# Altium integrated library Xilinx Virtex.IntLib: 240 symbols (part 17 of 35)
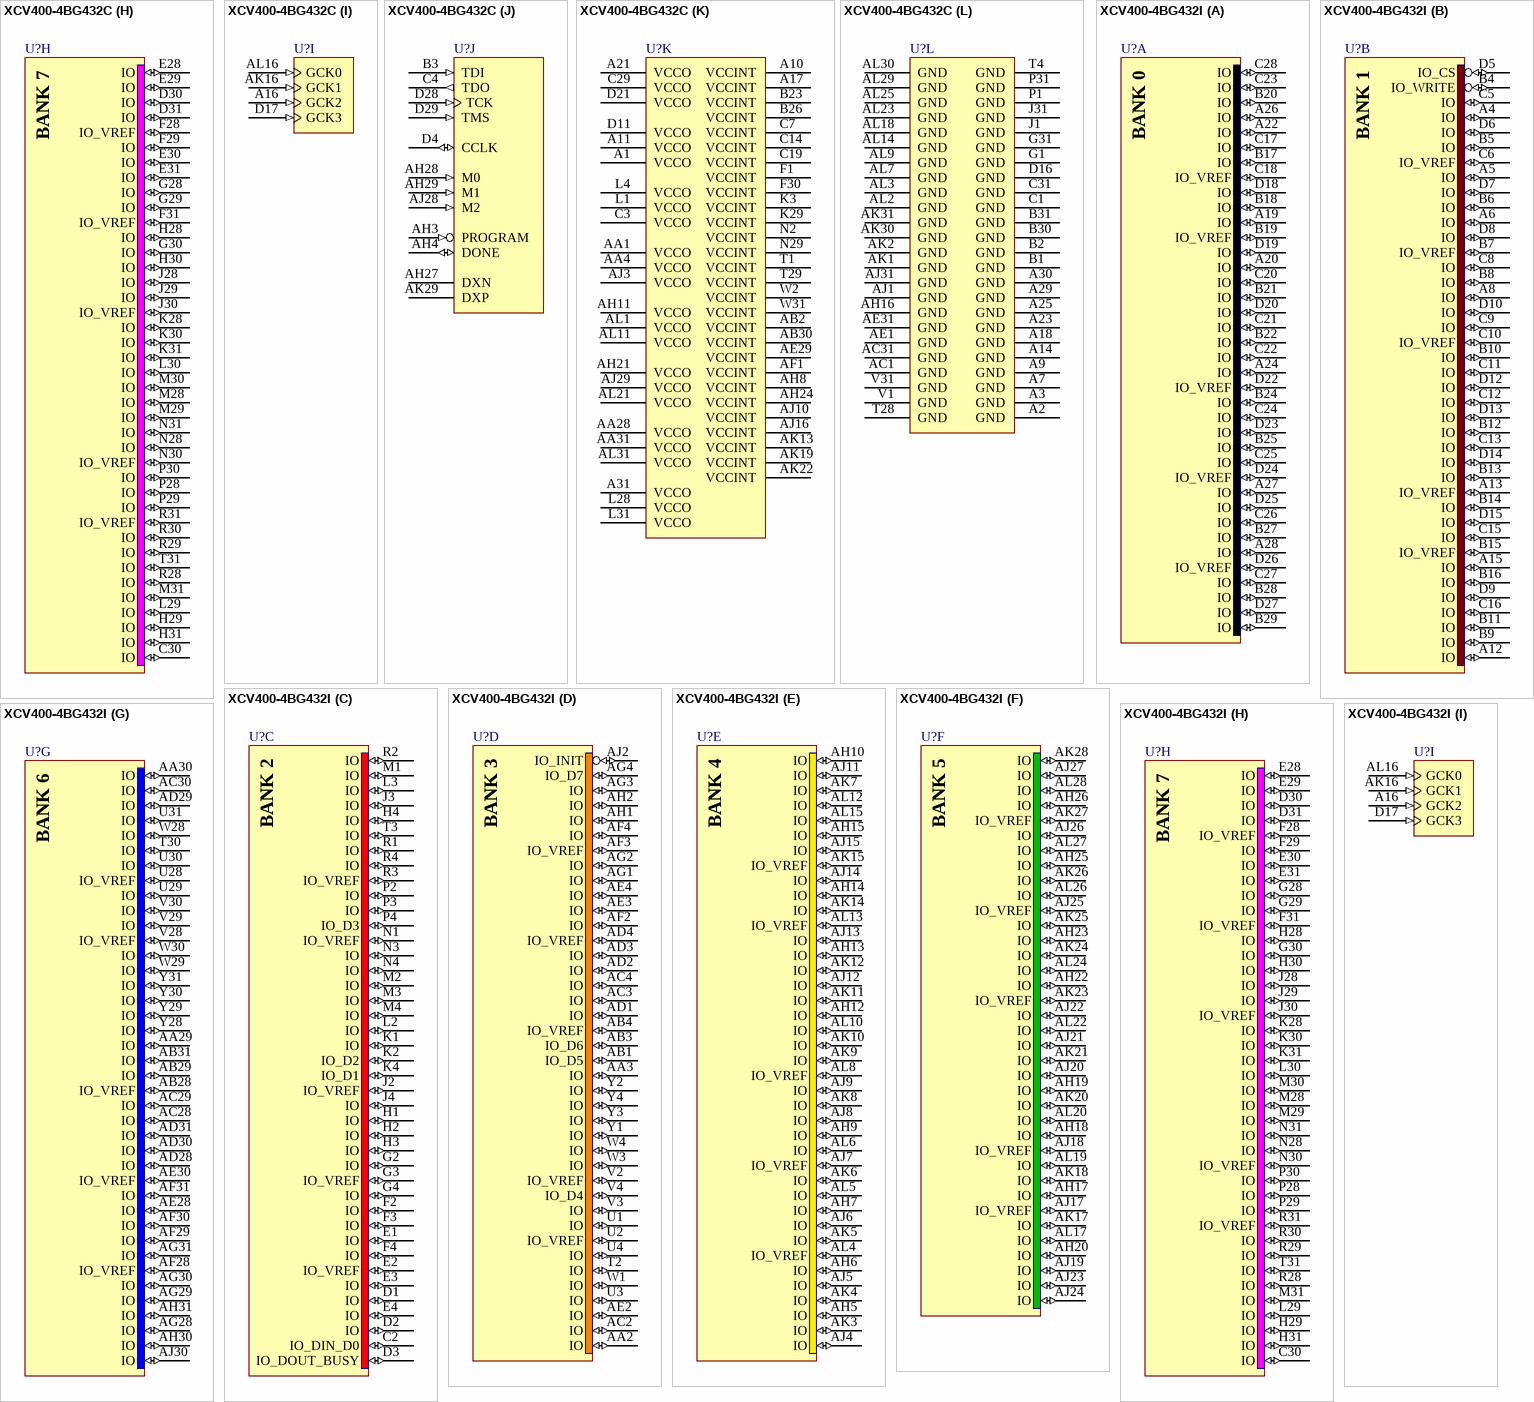
[diagram p237: symbols XCV400-4BG432C to XCV400-4BG432I]

## XCV400-4BG432C
designator U?
Virtex 2.5V FPGA, 316 User I/Os, 432-Ball BGA, Speed Grade 4, Commercial Grade; Note: Solder pads are defined by the copper i.e. non-soldermask defined (NSMD); DatasheetVersion: Dec-2002; PackageVersion: ver1.1, Apr-2001; PackageReference: BG432; PackageDescription: 432-Ball Metal Ball Grid Array (BG432); Code_JEDEC: MO-192-BAU-1 (Depopulated); ComponentLink1Description: Manufacturer URL; ComponentLink1URL: http://www.xilinx.com/; ComponentLink2Description: Virtex Datasheet; ComponentLink2URL: http://www.xilinx.com/support/documentation/data_sheets/ds003.pdf; ComponentLink3Description: BG432 Package Drawing; ComponentLink3URL: http://www.xilinx.com/support/documentation/package_specs/bg432.pdf; ComponentLink4Description: Virtex Documents; ComponentLink4URL: http://www.xilinx.com/support/documentation/virtex.htm
footprint BG432 (BGA, 432-Leads, Body 40x40mm, Pitch 1.27mm)
part A pins: A19 IO (io), A20 IO (io), A22 IO (io), A24 IO (io), A26 IO (io), A27 IO (io), A28 IO (io), B17 IO (io), B18 IO (io), B19 IO_VREF (io), B20 IO (io), B21 IO (io), B22 IO (io), B24 IO (io), B25 IO (io), B27 IO (io), B28 IO (io), B29 IO (io), C17 IO (io), C18 IO_VREF (io), C20 IO (io), C21 IO (io), C22 IO (io), C23 IO (io), C24 IO (io), C25 IO (io), C26 IO (io), C27 IO (io), C28 IO (io), D18 IO (io), D19 IO (io), D20 IO (io), D22 IO_VREF (io), D23 IO (io), D24 IO_VREF (io), D25 IO (io), D26 IO_VREF (io), D27 IO (io)
part B pins: A4 IO (io), A5 IO (io), A6 IO (io), A8 IO (io), A12 IO (io), A13 IO_VREF (io), A15 IO (io), B4 IO_WRITE (io), B5 IO (io), B6 IO (io), B7 IO_VREF (io), B8 IO (io), B9 IO (io), B10 IO (io), B11 IO (io), B12 IO (io), B13 IO (io), B14 IO (io), B15 IO_VREF (io), B16 IO (io), C5 IO (io), C6 IO_VREF (io), C8 IO (io), C9 IO (io), C10 IO_VREF (io), C11 IO (io), C12 IO (io), C13 IO (io), C15 IO (io), C16 IO (io), D5 IO_CS (io), D6 IO (io), D7 IO (io), D8 IO (io), D9 IO (io), D10 IO (io), D12 IO (io), D13 IO (io), D14 IO (io), D15 IO (io)
part C pins: C2 IO_DIN_D0 (io), D1 IO (io), D2 IO (io), D3 IO_DOUT_BUSY (io), E1 IO (io), E2 IO_VREF (io), E3 IO (io), E4 IO (io), F2 IO (io), F3 IO (io), F4 IO (io), G2 IO (io), G3 IO_VREF (io), G4 IO (io), H1 IO (io), H2 IO (io), H3 IO (io), H4 IO (io), J2 IO_VREF (io), J3 IO (io), J4 IO (io), K1 IO (io), K2 IO_D2 (io), K4 IO_D1 (io), L2 IO (io), L3 IO (io), M1 IO (io), M2 IO (io), M3 IO (io), M4 IO (io), N1 IO_VREF (io), N3 IO (io), N4 IO (io), P2 IO (io), P3 IO (io), P4 IO_D3 (io), R1 IO (io), R2 IO (io), R3 IO_VREF (io), R4 IO (io), T3 IO (io)
part D pins: AA2 IO (io), AA3 IO (io), AB1 IO_D5 (io), AB3 IO_D6 (io), AB4 IO_VREF (io), AC2 IO (io), AC3 IO (io), AC4 IO (io), AD1 IO (io), AD2 IO (io), AD3 IO (io), AD4 IO_VREF (io), AE2 IO (io), AE3 IO (io), AE4 IO (io), AF2 IO (io), AF3 IO_VREF (io), AF4 IO (io), AG1 IO (io), AG2 IO (io), AG3 IO (io), AG4 IO_D7 (io), AH1 IO (io), AH2 IO (io), AJ2 IO_INIT (io), T2 IO (io), U1 IO (io), U2 IO_VREF (io), U3 IO (io), U4 IO (io), V2 IO_VREF (io), V3 IO (io), V4 IO_D4 (io), W1 IO (io), W3 IO (io), W4 IO (io), Y1 IO (io), Y2 IO (io), Y3 IO (io), Y4 IO (io)
part E pins: AH5 IO (io), AH6 IO (io), AH7 IO (io), AH9 IO (io), AH10 IO (io), AH12 IO (io), AH13 IO (io), AH14 IO (io), AH15 IO (io), AJ4 IO (io), AJ5 IO (io), AJ6 IO (io), AJ7 IO_VREF (io), AJ8 IO (io), AJ9 IO (io), AJ11 IO (io), AJ12 IO (io), AJ13 IO (io), AJ14 IO (io), AJ15 IO (io), AK3 IO (io), AK4 IO (io), AK5 IO (io), AK6 IO (io), AK7 IO (io), AK8 IO (io), AK9 IO (io), AK10 IO (io), AK11 IO (io), AK12 IO (io), AK14 IO (io), AK15 IO_VREF (io), AL4 IO_VREF (io), AL5 IO (io), AL6 IO (io), AL8 IO_VREF (io), AL10 IO (io), AL12 IO (io), AL13 IO_VREF (io), AL15 IO (io)
part F pins: AH17 IO (io), AH18 IO (io), AH19 IO (io), AH20 IO (io), AH22 IO (io), AH23 IO (io), AH25 IO (io), AH26 IO (io), AJ17 IO_VREF (io), AJ18 IO_VREF (io), AJ19 IO (io), AJ20 IO (io), AJ21 IO (io), AJ22 IO (io), AJ23 IO (io), AJ24 IO (io), AJ25 IO_VREF (io), AJ26 IO (io), AJ27 IO (io), AK17 IO (io), AK18 IO (io), AK20 IO (io), AK21 IO (io), AK23 IO_VREF (io), AK24 IO (io), AK25 IO (io), AK26 IO (io), AK27 IO_VREF (io), AK28 IO (io), AL17 IO (io), AL19 IO (io), AL20 IO (io), AL22 IO (io), AL24 IO (io), AL26 IO (io), AL27 IO (io), AL28 IO (io)
part G pins: AA29 IO (io), AA30 IO (io), AB28 IO_VREF (io), AB29 IO (io), AB31 IO (io), AC28 IO (io), AC29 IO (io), AC30 IO (io), AD28 IO (io), AD29 IO (io), AD30 IO (io), AD31 IO (io), AE28 IO (io), AE30 IO_VREF (io), AF28 IO_VREF (io), AF29 IO (io), AF30 IO (io), AF31 IO (io), AG28 IO (io), AG29 IO (io), AG30 IO (io), AG31 IO (io), AH30 IO (io), AH31 IO (io), AJ30 IO (io), T30 IO (io), U28 IO_VREF (io), U29 IO (io), U30 IO (io), U31 IO (io), V28 IO_VREF (io), V29 IO (io), V30 IO (io), W28 IO (io), W29 IO (io), W30 IO (io), Y28 IO (io), Y29 IO (io), Y30 IO (io), Y31 IO (io)
part H pins: C30 IO (io), D30 IO (io), D31 IO (io), E28 IO (io), E29 IO (io), E30 IO (io), E31 IO (io), F28 IO_VREF (io), F29 IO (io), F31 IO_VREF (io), G28 IO (io), G29 IO (io), G30 IO (io), H28 IO (io), H29 IO (io), H30 IO (io), H31 IO (io), J28 IO (io), J29 IO (io), J30 IO_VREF (io), K28 IO (io), K30 IO (io), K31 IO (io), L29 IO (io), L30 IO (io), M28 IO (io), M29 IO (io), M30 IO (io), M31 IO (io), N28 IO (io), N30 IO_VREF (io), N31 IO (io), P28 IO (io), P29 IO (io), P30 IO (io), R28 IO (io), R29 IO (io), R30 IO (io), R31 IO_VREF (io), T31 IO (io)
part I pins: A16 GCK2 (in), AK16 GCK1 (in), AL16 GCK0 (in), D17 GCK3 (in)
part J pins: AH3 PROGRAM (in), AH4 DONE (io), AH27 DXN, AH28 M0 (in), AH29 M1 (in), AJ28 M2 (in), AK29 DXP, B3 TDI (in), C4 TDO (out), D4 CCLK (io), D28 TCK (in), D29 TMS (in)
part K pins: A1 VCCO (power), A10 VCCINT (power), A11 VCCO (power), A17 VCCINT (power), A21 VCCO (power), A31 VCCO (power), AA1 VCCO (power), AA4 VCCO (power), AA28 VCCO (power), AA31 VCCO (power), AB2 VCCINT (power), AB30 VCCINT (power), AE29 VCCINT (power), AF1 VCCINT (power), AH8 VCCINT (power), AH11 VCCO (power), AH21 VCCO (power), AH24 VCCINT (power), AJ3 VCCO (power), AJ10 VCCINT (power), AJ16 VCCINT (power), AJ29 VCCO (power), AK13 VCCINT (power), AK19 VCCINT (power), AK22 VCCINT (power), AL1 VCCO (power), AL11 VCCO (power), AL21 VCCO (power), AL31 VCCO (power), B23 VCCINT (power), B26 VCCINT (power), C3 VCCO (power), C7 VCCINT (power), C14 VCCINT (power), C19 VCCINT (power), C29 VCCO (power), D11 VCCO (power), D21 VCCO (power), F1 VCCINT (power), F30 VCCINT (power), K3 VCCINT (power), K29 VCCINT (power), L1 VCCO (power), L4 VCCO (power), L28 VCCO (power), L31 VCCO (power), N2 VCCINT (power), N29 VCCINT (power), T1 VCCINT (power), T29 VCCINT (power), W2 VCCINT (power), W31 VCCINT (power)
part L pins: A2 GND (power), A3 GND (power), A7 GND (power), A9 GND (power), A14 GND (power), A18 GND (power), A23 GND (power), A25 GND (power), A29 GND (power), A30 GND (power), AC1 GND (power), AC31 GND (power), AE1 GND (power), AE31 GND (power), AH16 GND (power), AJ1 GND (power), AJ31 GND (power), AK1 GND (power), AK2 GND (power), AK30 GND (power), AK31 GND (power), AL2 GND (power), AL3 GND (power), AL7 GND (power), AL9 GND (power), AL14 GND (power), AL18 GND (power), AL23 GND (power), AL25 GND (power), AL29 GND (power), AL30 GND (power), B1 GND (power), B2 GND (power), B30 GND (power), B31 GND (power), C1 GND (power), C31 GND (power), D16 GND (power), G1 GND (power), G31 GND (power), J1 GND (power), J31 GND (power), P1 GND (power), P31 GND (power), T4 GND (power), T28 GND (power), V1 GND (power), V31 GND (power)
part A text: BANK 0
part B text: BANK 1
part C text: BANK 2
part D text: BANK 3
part E text: BANK 4
part F text: BANK 5
part G text: BANK 6
part H text: BANK 7

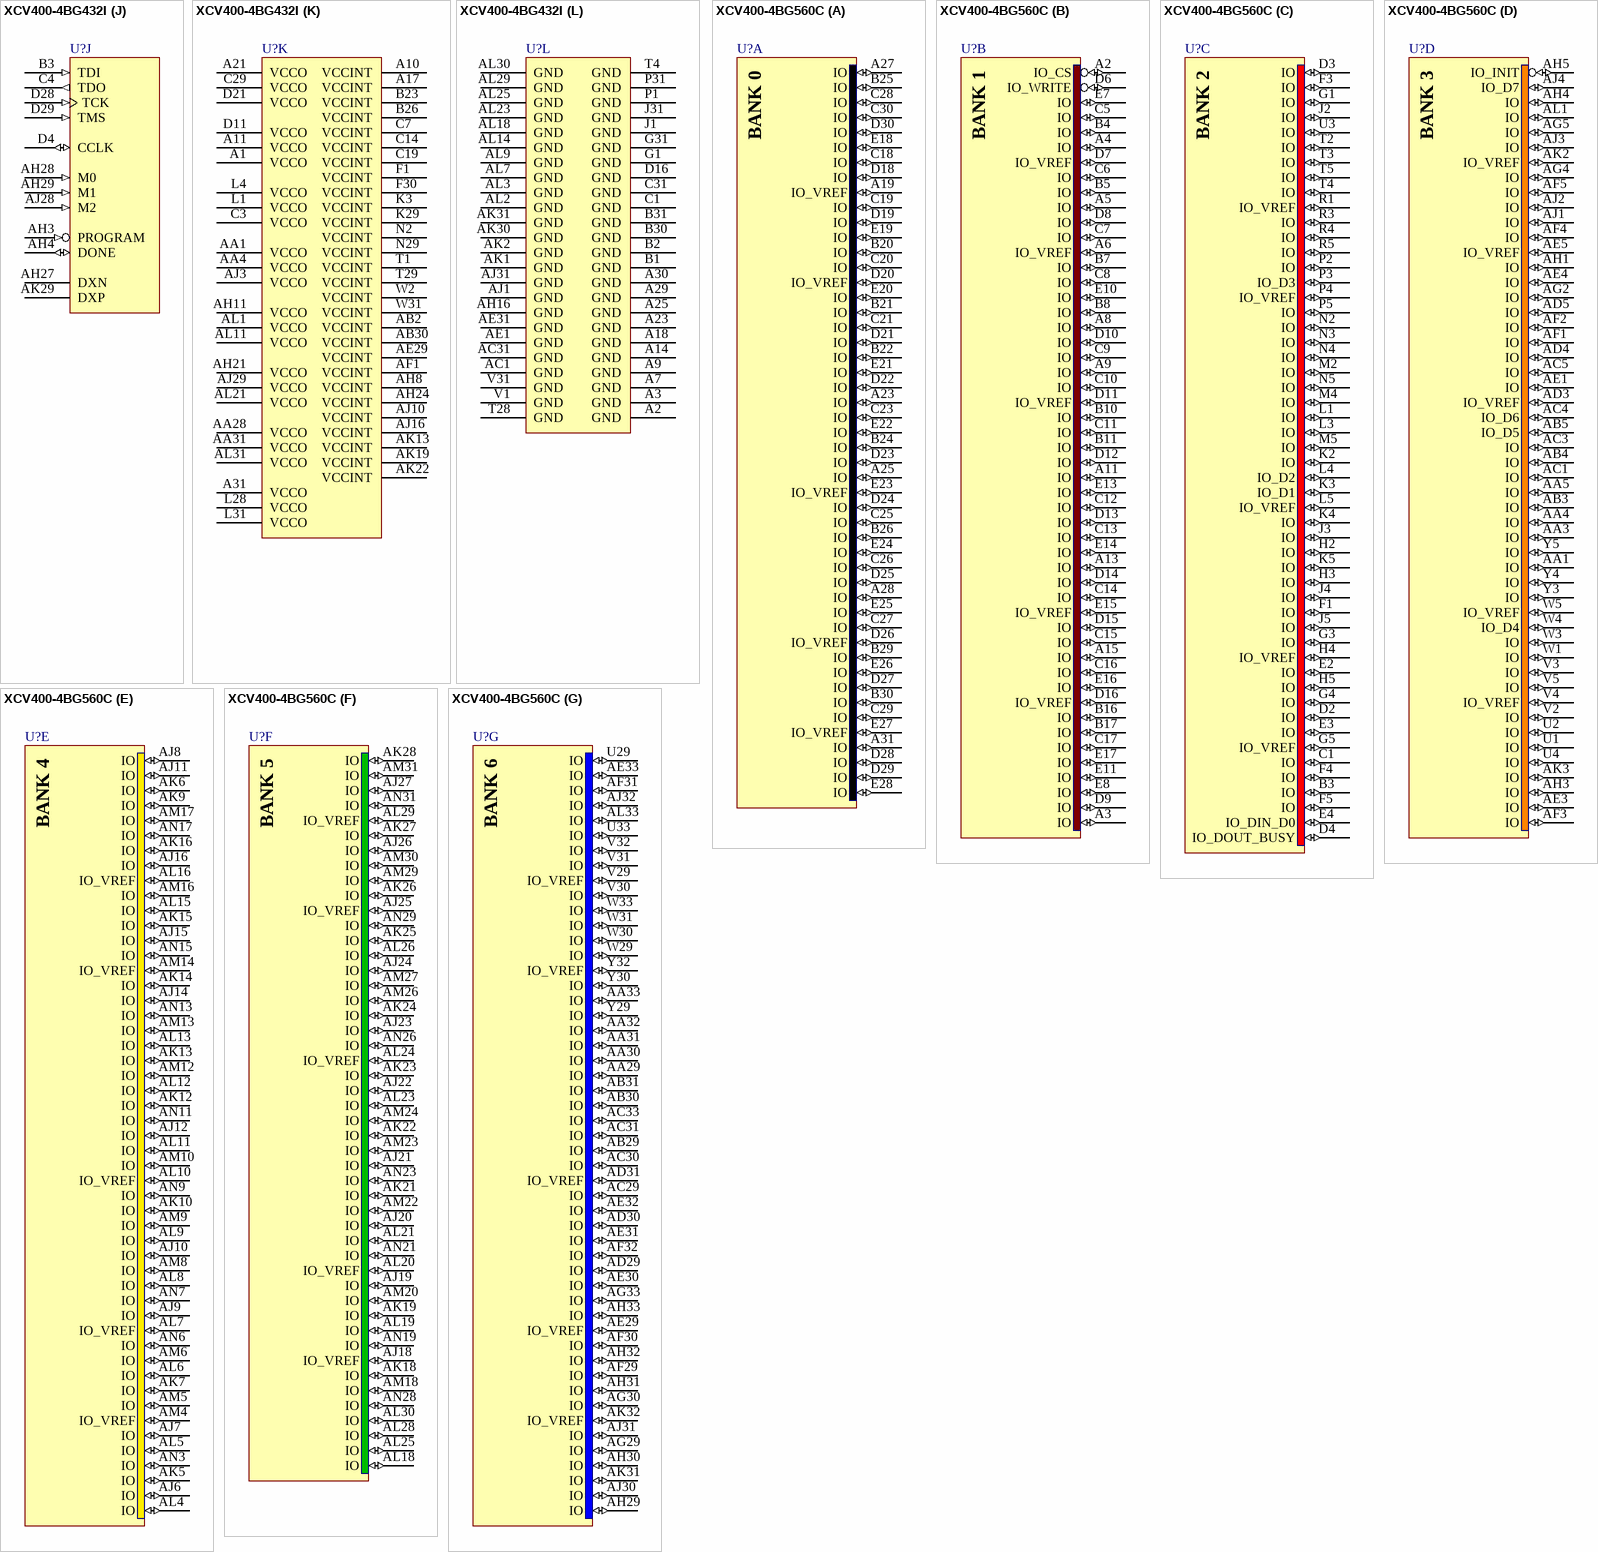
[diagram p94: symbols XCV400-4BG432I to XCV400-4BG560C]

## XCV400-4BG432I
designator U?
Virtex 2.5V FPGA, 316 User I/Os, 432-Ball BGA, Speed Grade 4, Industrial Grade; Note: Solder pads are defined by the copper i.e. non-soldermask defined (NSMD); DatasheetVersion: Dec-2002; PackageVersion: ver1.1, Apr-2001; PackageReference: BG432; PackageDescription: 432-Ball Metal Ball Grid Array (BG432); Code_JEDEC: MO-192-BAU-1 (Depopulated); ComponentLink1Description: Manufacturer URL; ComponentLink1URL: http://www.xilinx.com/; ComponentLink2Description: Virtex Datasheet; ComponentLink2URL: http://www.xilinx.com/support/documentation/data_sheets/ds003.pdf; ComponentLink3Description: BG432 Package Drawing; ComponentLink3URL: http://www.xilinx.com/support/documentation/package_specs/bg432.pdf; ComponentLink4Description: Virtex Documents; ComponentLink4URL: http://www.xilinx.com/support/documentation/virtex.htm
footprint BG432 (BGA, 432-Leads, Body 40x40mm, Pitch 1.27mm)
part A pins: A19 IO (io), A20 IO (io), A22 IO (io), A24 IO (io), A26 IO (io), A27 IO (io), A28 IO (io), B17 IO (io), B18 IO (io), B19 IO_VREF (io), B20 IO (io), B21 IO (io), B22 IO (io), B24 IO (io), B25 IO (io), B27 IO (io), B28 IO (io), B29 IO (io), C17 IO (io), C18 IO_VREF (io), C20 IO (io), C21 IO (io), C22 IO (io), C23 IO (io), C24 IO (io), C25 IO (io), C26 IO (io), C27 IO (io), C28 IO (io), D18 IO (io), D19 IO (io), D20 IO (io), D22 IO_VREF (io), D23 IO (io), D24 IO_VREF (io), D25 IO (io), D26 IO_VREF (io), D27 IO (io)
part B pins: A4 IO (io), A5 IO (io), A6 IO (io), A8 IO (io), A12 IO (io), A13 IO_VREF (io), A15 IO (io), B4 IO_WRITE (io), B5 IO (io), B6 IO (io), B7 IO_VREF (io), B8 IO (io), B9 IO (io), B10 IO (io), B11 IO (io), B12 IO (io), B13 IO (io), B14 IO (io), B15 IO_VREF (io), B16 IO (io), C5 IO (io), C6 IO_VREF (io), C8 IO (io), C9 IO (io), C10 IO_VREF (io), C11 IO (io), C12 IO (io), C13 IO (io), C15 IO (io), C16 IO (io), D5 IO_CS (io), D6 IO (io), D7 IO (io), D8 IO (io), D9 IO (io), D10 IO (io), D12 IO (io), D13 IO (io), D14 IO (io), D15 IO (io)
part C pins: C2 IO_DIN_D0 (io), D1 IO (io), D2 IO (io), D3 IO_DOUT_BUSY (io), E1 IO (io), E2 IO_VREF (io), E3 IO (io), E4 IO (io), F2 IO (io), F3 IO (io), F4 IO (io), G2 IO (io), G3 IO_VREF (io), G4 IO (io), H1 IO (io), H2 IO (io), H3 IO (io), H4 IO (io), J2 IO_VREF (io), J3 IO (io), J4 IO (io), K1 IO (io), K2 IO_D2 (io), K4 IO_D1 (io), L2 IO (io), L3 IO (io), M1 IO (io), M2 IO (io), M3 IO (io), M4 IO (io), N1 IO_VREF (io), N3 IO (io), N4 IO (io), P2 IO (io), P3 IO (io), P4 IO_D3 (io), R1 IO (io), R2 IO (io), R3 IO_VREF (io), R4 IO (io), T3 IO (io)
part D pins: AA2 IO (io), AA3 IO (io), AB1 IO_D5 (io), AB3 IO_D6 (io), AB4 IO_VREF (io), AC2 IO (io), AC3 IO (io), AC4 IO (io), AD1 IO (io), AD2 IO (io), AD3 IO (io), AD4 IO_VREF (io), AE2 IO (io), AE3 IO (io), AE4 IO (io), AF2 IO (io), AF3 IO_VREF (io), AF4 IO (io), AG1 IO (io), AG2 IO (io), AG3 IO (io), AG4 IO_D7 (io), AH1 IO (io), AH2 IO (io), AJ2 IO_INIT (io), T2 IO (io), U1 IO (io), U2 IO_VREF (io), U3 IO (io), U4 IO (io), V2 IO_VREF (io), V3 IO (io), V4 IO_D4 (io), W1 IO (io), W3 IO (io), W4 IO (io), Y1 IO (io), Y2 IO (io), Y3 IO (io), Y4 IO (io)
part E pins: AH5 IO (io), AH6 IO (io), AH7 IO (io), AH9 IO (io), AH10 IO (io), AH12 IO (io), AH13 IO (io), AH14 IO (io), AH15 IO (io), AJ4 IO (io), AJ5 IO (io), AJ6 IO (io), AJ7 IO_VREF (io), AJ8 IO (io), AJ9 IO (io), AJ11 IO (io), AJ12 IO (io), AJ13 IO (io), AJ14 IO (io), AJ15 IO (io), AK3 IO (io), AK4 IO (io), AK5 IO (io), AK6 IO (io), AK7 IO (io), AK8 IO (io), AK9 IO (io), AK10 IO (io), AK11 IO (io), AK12 IO (io), AK14 IO (io), AK15 IO_VREF (io), AL4 IO_VREF (io), AL5 IO (io), AL6 IO (io), AL8 IO_VREF (io), AL10 IO (io), AL12 IO (io), AL13 IO_VREF (io), AL15 IO (io)
part F pins: AH17 IO (io), AH18 IO (io), AH19 IO (io), AH20 IO (io), AH22 IO (io), AH23 IO (io), AH25 IO (io), AH26 IO (io), AJ17 IO_VREF (io), AJ18 IO_VREF (io), AJ19 IO (io), AJ20 IO (io), AJ21 IO (io), AJ22 IO (io), AJ23 IO (io), AJ24 IO (io), AJ25 IO_VREF (io), AJ26 IO (io), AJ27 IO (io), AK17 IO (io), AK18 IO (io), AK20 IO (io), AK21 IO (io), AK23 IO_VREF (io), AK24 IO (io), AK25 IO (io), AK26 IO (io), AK27 IO_VREF (io), AK28 IO (io), AL17 IO (io), AL19 IO (io), AL20 IO (io), AL22 IO (io), AL24 IO (io), AL26 IO (io), AL27 IO (io), AL28 IO (io)
part G pins: AA29 IO (io), AA30 IO (io), AB28 IO_VREF (io), AB29 IO (io), AB31 IO (io), AC28 IO (io), AC29 IO (io), AC30 IO (io), AD28 IO (io), AD29 IO (io), AD30 IO (io), AD31 IO (io), AE28 IO (io), AE30 IO_VREF (io), AF28 IO_VREF (io), AF29 IO (io), AF30 IO (io), AF31 IO (io), AG28 IO (io), AG29 IO (io), AG30 IO (io), AG31 IO (io), AH30 IO (io), AH31 IO (io), AJ30 IO (io), T30 IO (io), U28 IO_VREF (io), U29 IO (io), U30 IO (io), U31 IO (io), V28 IO_VREF (io), V29 IO (io), V30 IO (io), W28 IO (io), W29 IO (io), W30 IO (io), Y28 IO (io), Y29 IO (io), Y30 IO (io), Y31 IO (io)
part H pins: C30 IO (io), D30 IO (io), D31 IO (io), E28 IO (io), E29 IO (io), E30 IO (io), E31 IO (io), F28 IO_VREF (io), F29 IO (io), F31 IO_VREF (io), G28 IO (io), G29 IO (io), G30 IO (io), H28 IO (io), H29 IO (io), H30 IO (io), H31 IO (io), J28 IO (io), J29 IO (io), J30 IO_VREF (io), K28 IO (io), K30 IO (io), K31 IO (io), L29 IO (io), L30 IO (io), M28 IO (io), M29 IO (io), M30 IO (io), M31 IO (io), N28 IO (io), N30 IO_VREF (io), N31 IO (io), P28 IO (io), P29 IO (io), P30 IO (io), R28 IO (io), R29 IO (io), R30 IO (io), R31 IO_VREF (io), T31 IO (io)
part I pins: A16 GCK2 (in), AK16 GCK1 (in), AL16 GCK0 (in), D17 GCK3 (in)
part J pins: AH3 PROGRAM (in), AH4 DONE (io), AH27 DXN, AH28 M0 (in), AH29 M1 (in), AJ28 M2 (in), AK29 DXP, B3 TDI (in), C4 TDO (out), D4 CCLK (io), D28 TCK (in), D29 TMS (in)
part K pins: A1 VCCO (power), A10 VCCINT (power), A11 VCCO (power), A17 VCCINT (power), A21 VCCO (power), A31 VCCO (power), AA1 VCCO (power), AA4 VCCO (power), AA28 VCCO (power), AA31 VCCO (power), AB2 VCCINT (power), AB30 VCCINT (power), AE29 VCCINT (power), AF1 VCCINT (power), AH8 VCCINT (power), AH11 VCCO (power), AH21 VCCO (power), AH24 VCCINT (power), AJ3 VCCO (power), AJ10 VCCINT (power), AJ16 VCCINT (power), AJ29 VCCO (power), AK13 VCCINT (power), AK19 VCCINT (power), AK22 VCCINT (power), AL1 VCCO (power), AL11 VCCO (power), AL21 VCCO (power), AL31 VCCO (power), B23 VCCINT (power), B26 VCCINT (power), C3 VCCO (power), C7 VCCINT (power), C14 VCCINT (power), C19 VCCINT (power), C29 VCCO (power), D11 VCCO (power), D21 VCCO (power), F1 VCCINT (power), F30 VCCINT (power), K3 VCCINT (power), K29 VCCINT (power), L1 VCCO (power), L4 VCCO (power), L28 VCCO (power), L31 VCCO (power), N2 VCCINT (power), N29 VCCINT (power), T1 VCCINT (power), T29 VCCINT (power), W2 VCCINT (power), W31 VCCINT (power)
part L pins: A2 GND (power), A3 GND (power), A7 GND (power), A9 GND (power), A14 GND (power), A18 GND (power), A23 GND (power), A25 GND (power), A29 GND (power), A30 GND (power), AC1 GND (power), AC31 GND (power), AE1 GND (power), AE31 GND (power), AH16 GND (power), AJ1 GND (power), AJ31 GND (power), AK1 GND (power), AK2 GND (power), AK30 GND (power), AK31 GND (power), AL2 GND (power), AL3 GND (power), AL7 GND (power), AL9 GND (power), AL14 GND (power), AL18 GND (power), AL23 GND (power), AL25 GND (power), AL29 GND (power), AL30 GND (power), B1 GND (power), B2 GND (power), B30 GND (power), B31 GND (power), C1 GND (power), C31 GND (power), D16 GND (power), G1 GND (power), G31 GND (power), J1 GND (power), J31 GND (power), P1 GND (power), P31 GND (power), T4 GND (power), T28 GND (power), V1 GND (power), V31 GND (power)
part A text: BANK 0
part B text: BANK 1
part C text: BANK 2
part D text: BANK 3
part E text: BANK 4
part F text: BANK 5
part G text: BANK 6
part H text: BANK 7

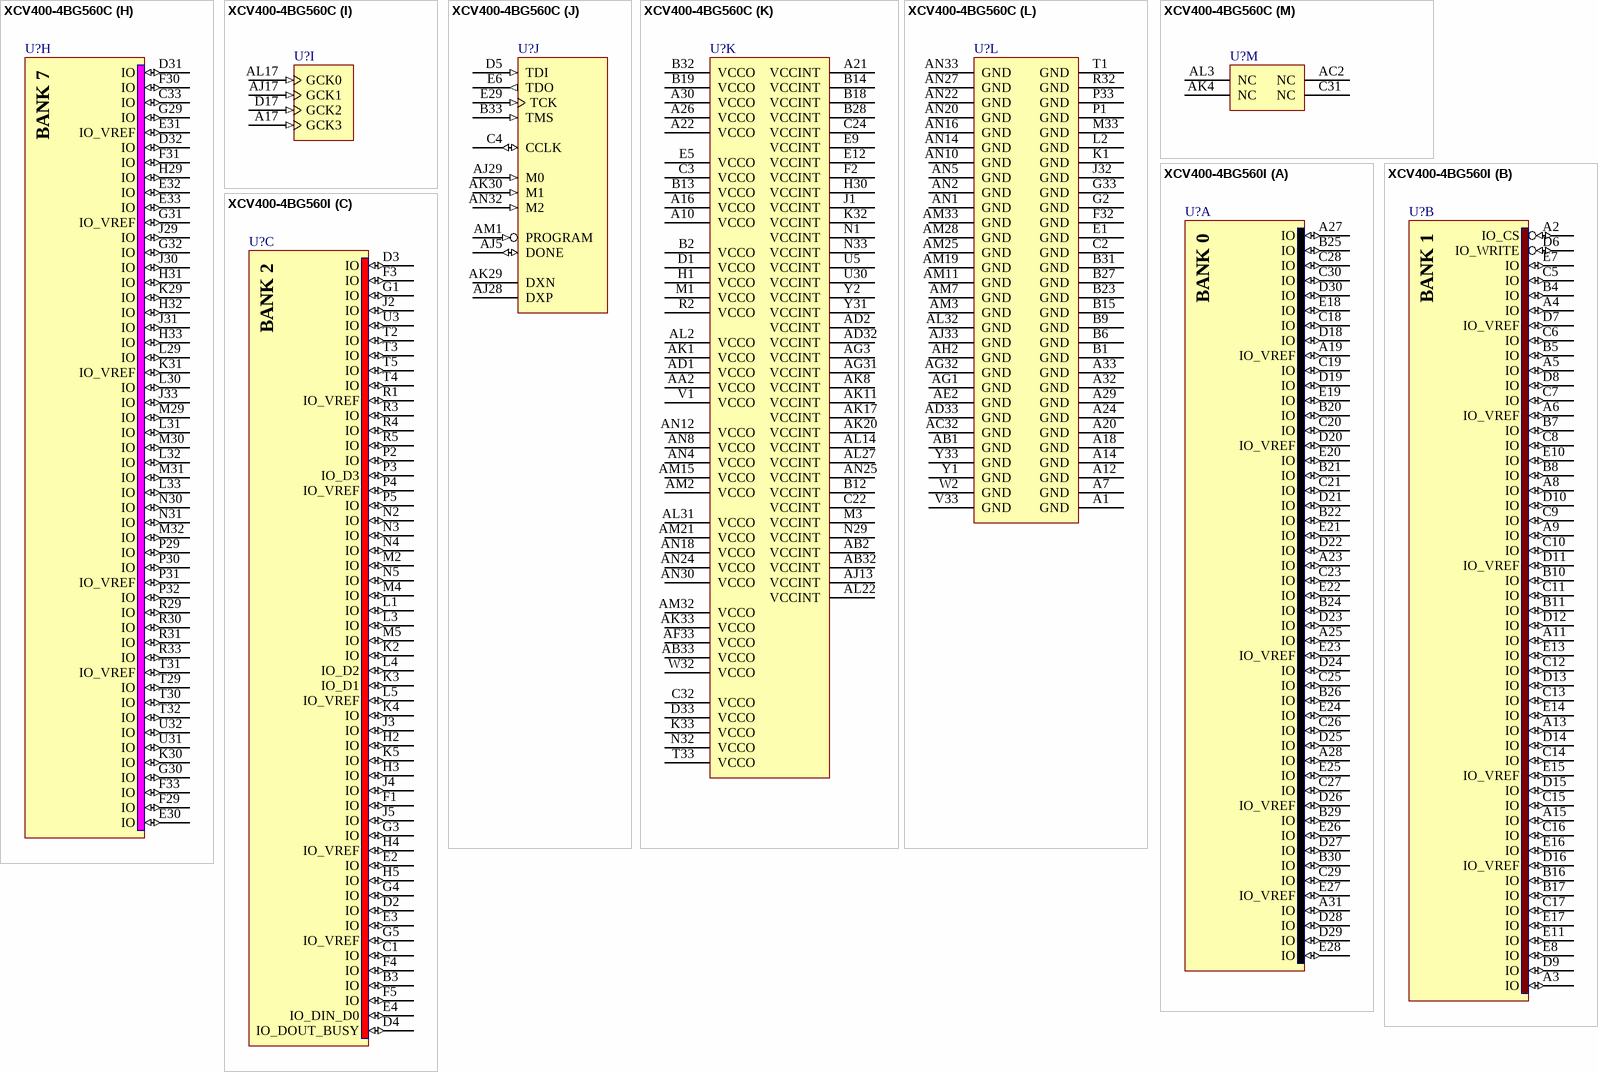
[diagram p95: symbols XCV400-4BG560C to XCV400-4BG560I]

## XCV400-4BG560C
designator U?
Virtex 2.5V FPGA, 404 User I/Os, 560-Ball BGA, Speed Grade 4, Commercial Grade; Note: Solder pads are defined by the copper i.e. non-soldermask defined (NSMD); DatasheetVersion: Dec-2002; PackageVersion: ver1.1, Apr-2001; PackageReference: BG560; PackageDescription: 560-Ball Metal Ball Grid Array (BG560); Code_JEDEC: MO-192-BAV-1 (Depopulated); ComponentLink1Description: Manufacturer URL; ComponentLink1URL: http://www.xilinx.com/; ComponentLink2Description: Virtex Datasheet; ComponentLink2URL: http://www.xilinx.com/support/documentation/data_sheets/ds003.pdf; ComponentLink3Description: BG560 Package Drawing; ComponentLink3URL: http://www.xilinx.com/support/documentation/package_specs/bg560.pdf; ComponentLink4Description: Virtex Documents; ComponentLink4URL: http://www.xilinx.com/support/documentation/virtex.htm
footprint BG560 (BGA, 560-Leads, Body 42.5x42.5mm, Pitch 1.27mm)
part A pins: A19 IO_VREF (io), A23 IO (io), A25 IO (io), A27 IO (io), A28 IO (io), A31 IO (io), B20 IO (io), B21 IO (io), B22 IO (io), B24 IO (io), B25 IO (io), B26 IO (io), B29 IO (io), B30 IO (io), C18 IO (io), C19 IO (io), C20 IO (io), C21 IO (io), C23 IO (io), C25 IO (io), C26 IO (io), C27 IO (io), C28 IO (io), C29 IO (io), C30 IO (io), D18 IO (io), D19 IO (io), D20 IO_VREF (io), D21 IO (io), D22 IO (io), D23 IO (io), D24 IO (io), D25 IO (io), D26 IO_VREF (io), D27 IO (io), D28 IO (io), D29 IO (io), D30 IO (io), E18 IO (io), E19 IO (io), E20 IO (io), E21 IO (io), E22 IO (io), E23 IO_VREF (io), E24 IO (io), E25 IO (io), E26 IO (io), E27 IO_VREF (io), E28 IO (io)
part B pins: A2 IO_CS (io), A3 IO (io), A4 IO (io), A5 IO (io), A6 IO_VREF (io), A8 IO (io), A9 IO (io), A11 IO (io), A13 IO (io), A15 IO (io), B4 IO (io), B5 IO (io), B7 IO (io), B8 IO (io), B10 IO (io), B11 IO (io), B16 IO (io), B17 IO (io), C5 IO (io), C6 IO (io), C7 IO (io), C8 IO (io), C9 IO (io), C10 IO (io), C11 IO (io), C12 IO (io), C13 IO (io), C14 IO (io), C15 IO (io), C16 IO (io), C17 IO (io), D6 IO_WRITE (io), D7 IO_VREF (io), D8 IO (io), D9 IO (io), D10 IO (io), D11 IO_VREF (io), D12 IO (io), D13 IO (io), D14 IO (io), D15 IO (io), D16 IO_VREF (io), E7 IO (io), E8 IO (io), E10 IO (io), E11 IO (io), E13 IO (io), E14 IO (io), E15 IO_VREF (io), E16 IO (io), E17 IO (io)
part C pins: B3 IO (io), C1 IO (io), D2 IO (io), D3 IO (io), D4 IO_DOUT_BUSY (io), E2 IO (io), E3 IO (io), E4 IO_DIN_D0 (io), F1 IO (io), F3 IO (io), F4 IO (io), F5 IO (io), G1 IO (io), G3 IO (io), G4 IO (io), G5 IO_VREF (io), H2 IO (io), H3 IO (io), H4 IO_VREF (io), H5 IO (io), J2 IO (io), J3 IO (io), J4 IO (io), J5 IO (io), K2 IO (io), K3 IO_D1 (io), K4 IO (io), K5 IO (io), L1 IO (io), L3 IO (io), L4 IO_D2 (io), L5 IO_VREF (io), M2 IO (io), M4 IO (io), M5 IO (io), N2 IO (io), N3 IO (io), N4 IO (io), N5 IO (io), P2 IO (io), P3 IO_D3 (io), P4 IO_VREF (io), P5 IO (io), R1 IO_VREF (io), R3 IO (io), R4 IO (io), R5 IO (io), T2 IO (io), T3 IO (io), T4 IO (io), T5 IO (io), U3 IO (io)
part D pins: AA1 IO (io), AA3 IO (io), AA4 IO (io), AA5 IO (io), AB3 IO (io), AB4 IO (io), AB5 IO_D5 (io), AC1 IO (io), AC3 IO (io), AC4 IO_D6 (io), AC5 IO (io), AD3 IO_VREF (io), AD4 IO (io), AD5 IO (io), AE1 IO (io), AE3 IO (io), AE4 IO (io), AE5 IO_VREF (io), AF1 IO (io), AF2 IO (io), AF3 IO (io), AF4 IO (io), AF5 IO (io), AG2 IO (io), AG4 IO (io), AG5 IO (io), AH1 IO (io), AH3 IO (io), AH4 IO (io), AH5 IO_INIT (io), AJ1 IO (io), AJ2 IO (io), AJ3 IO (io), AJ4 IO_D7 (io), AK2 IO_VREF (io), AK3 IO (io), AL1 IO (io), U1 IO (io), U2 IO (io), U4 IO (io), V2 IO (io), V3 IO (io), V4 IO_VREF (io), V5 IO (io), W1 IO (io), W3 IO (io), W4 IO_D4 (io), W5 IO_VREF (io), Y3 IO (io), Y4 IO (io), Y5 IO (io)
part E pins: AJ6 IO (io), AJ7 IO (io), AJ8 IO (io), AJ9 IO (io), AJ10 IO (io), AJ11 IO (io), AJ12 IO (io), AJ14 IO (io), AJ15 IO (io), AJ16 IO (io), AK5 IO (io), AK6 IO (io), AK7 IO (io), AK9 IO (io), AK10 IO (io), AK12 IO (io), AK13 IO (io), AK14 IO (io), AK15 IO (io), AK16 IO (io), AL4 IO (io), AL5 IO (io), AL6 IO (io), AL7 IO_VREF (io), AL8 IO (io), AL9 IO (io), AL10 IO_VREF (io), AL11 IO (io), AL12 IO (io), AL13 IO (io), AL15 IO (io), AL16 IO_VREF (io), AM4 IO_VREF (io), AM5 IO (io), AM6 IO (io), AM8 IO (io), AM9 IO (io), AM10 IO (io), AM12 IO (io), AM13 IO (io), AM14 IO_VREF (io), AM16 IO (io), AM17 IO (io), AN3 IO (io), AN6 IO (io), AN7 IO (io), AN9 IO (io), AN11 IO (io), AN13 IO (io), AN15 IO (io), AN17 IO (io)
part F pins: AJ18 IO_VREF (io), AJ19 IO (io), AJ20 IO (io), AJ21 IO (io), AJ22 IO (io), AJ23 IO (io), AJ24 IO (io), AJ25 IO_VREF (io), AJ26 IO (io), AJ27 IO (io), AK18 IO (io), AK19 IO (io), AK21 IO (io), AK22 IO (io), AK23 IO (io), AK24 IO (io), AK25 IO (io), AK26 IO (io), AK27 IO (io), AK28 IO (io), AL18 IO (io), AL19 IO (io), AL20 IO_VREF (io), AL21 IO (io), AL23 IO (io), AL24 IO_VREF (io), AL25 IO (io), AL26 IO (io), AL28 IO (io), AL29 IO_VREF (io), AL30 IO (io), AM18 IO (io), AM20 IO (io), AM22 IO (io), AM23 IO (io), AM24 IO (io), AM26 IO (io), AM27 IO (io), AM29 IO (io), AM30 IO (io), AM31 IO (io), AN19 IO (io), AN21 IO (io), AN23 IO (io), AN26 IO (io), AN28 IO (io), AN29 IO (io), AN31 IO (io)
part G pins: AA29 IO (io), AA30 IO (io), AA31 IO (io), AA32 IO (io), AA33 IO (io), AB29 IO (io), AB30 IO (io), AB31 IO (io), AC29 IO (io), AC30 IO (io), AC31 IO (io), AC33 IO (io), AD29 IO (io), AD30 IO (io), AD31 IO_VREF (io), AE29 IO_VREF (io), AE30 IO (io), AE31 IO (io), AE32 IO (io), AE33 IO (io), AF29 IO (io), AF30 IO (io), AF31 IO (io), AF32 IO (io), AG29 IO (io), AG30 IO (io), AG33 IO (io), AH29 IO (io), AH30 IO (io), AH31 IO (io), AH32 IO (io), AH33 IO (io), AJ30 IO (io), AJ31 IO (io), AJ32 IO (io), AK31 IO (io), AK32 IO_VREF (io), AL33 IO (io), U29 IO (io), U33 IO (io), V29 IO_VREF (io), V30 IO (io), V31 IO (io), V32 IO (io), W29 IO (io), W30 IO (io), W31 IO (io), W33 IO (io), Y29 IO (io), Y30 IO (io), Y32 IO_VREF (io)
part H pins: C33 IO (io), D31 IO (io), D32 IO (io), E30 IO (io), E31 IO_VREF (io), E32 IO (io), E33 IO (io), F29 IO (io), F30 IO (io), F31 IO (io), F33 IO (io), G29 IO (io), G30 IO (io), G31 IO_VREF (io), G32 IO (io), H29 IO (io), H31 IO (io), H32 IO (io), H33 IO (io), J29 IO (io), J30 IO (io), J31 IO (io), J33 IO (io), K29 IO (io), K30 IO (io), K31 IO_VREF (io), L29 IO (io), L30 IO (io), L31 IO (io), L32 IO (io), L33 IO (io), M29 IO (io), M30 IO (io), M31 IO (io), M32 IO (io), N30 IO (io), N31 IO (io), P29 IO (io), P30 IO (io), P31 IO_VREF (io), P32 IO (io), R29 IO (io), R30 IO (io), R31 IO (io), R33 IO (io), T29 IO (io), T30 IO (io), T31 IO_VREF (io), T32 IO (io), U31 IO (io), U32 IO (io)
part I pins: A17 GCK3 (in), AJ17 GCK1 (in), AL17 GCK0 (in), D17 GCK2 (in)
part J pins: AJ5 DONE (io), AJ28 DXP, AJ29 M0 (in), AK29 DXN, AK30 M1 (in), AM1 PROGRAM (in), AN32 M2 (in), B33 TMS (in), C4 CCLK (io), D5 TDI (in), E6 TDO (out), E29 TCK (in)
part K pins: A10 VCCO (power), A16 VCCO (power), A21 VCCINT (power), A22 VCCO (power), A26 VCCO (power), A30 VCCO (power), AA2 VCCO (power), AB2 VCCINT (power), AB32 VCCINT (power), AB33 VCCO (power), AD1 VCCO (power), AD2 VCCINT (power), AD32 VCCINT (power), AF33 VCCO (power), AG3 VCCINT (power), AG31 VCCINT (power), AJ13 VCCINT (power), AK1 VCCO (power), AK8 VCCINT (power), AK11 VCCINT (power), AK17 VCCINT (power), AK20 VCCINT (power), AK33 VCCO (power), AL2 VCCO (power), AL14 VCCINT (power), AL22 VCCINT (power), AL27 VCCINT (power), AL31 VCCO (power), AM2 VCCO (power), AM15 VCCO (power), AM21 VCCO (power), AM32 VCCO (power), AN4 VCCO (power), AN8 VCCO (power), AN12 VCCO (power), AN18 VCCO (power), AN24 VCCO (power), AN25 VCCINT (power), AN30 VCCO (power), B2 VCCO (power), B12 VCCINT (power), B13 VCCO (power), B14 VCCINT (power), B18 VCCINT (power), B19 VCCO (power), B28 VCCINT (power), B32 VCCO (power), C3 VCCO (power), C22 VCCINT (power), C24 VCCINT (power), C32 VCCO (power), D1 VCCO (power), D33 VCCO (power), E5 VCCO (power), E9 VCCINT (power), E12 VCCINT (power), F2 VCCINT (power), H1 VCCO (power), H30 VCCINT (power), J1 VCCINT (power), K32 VCCINT (power), K33 VCCO (power), M1 VCCO (power), M3 VCCINT (power), N1 VCCINT (power), N29 VCCINT (power), N32 VCCO (power), N33 VCCINT (power), R2 VCCO (power), T33 VCCO (power), U5 VCCINT (power), U30 VCCINT (power), V1 VCCO (power), W32 VCCO (power), Y2 VCCINT (power), Y31 VCCINT (power)
part L pins: A1 GND (power), A7 GND (power), A12 GND (power), A14 GND (power), A18 GND (power), A20 GND (power), A24 GND (power), A29 GND (power), A32 GND (power), A33 GND (power), AB1 GND (power), AC32 GND (power), AD33 GND (power), AE2 GND (power), AG1 GND (power), AG32 GND (power), AH2 GND (power), AJ33 GND (power), AL32 GND (power), AM3 GND (power), AM7 GND (power), AM11 GND (power), AM19 GND (power), AM25 GND (power), AM28 GND (power), AM33 GND (power), AN1 GND (power), AN2 GND (power), AN5 GND (power), AN10 GND (power), AN14 GND (power), AN16 GND (power), AN20 GND (power), AN22 GND (power), AN27 GND (power), AN33 GND (power), B1 GND (power), B6 GND (power), B9 GND (power), B15 GND (power), B23 GND (power), B27 GND (power), B31 GND (power), C2 GND (power), E1 GND (power), F32 GND (power), G2 GND (power), G33 GND (power), J32 GND (power), K1 GND (power), L2 GND (power), M33 GND (power), P1 GND (power), P33 GND (power), R32 GND (power), T1 GND (power), V33 GND (power), W2 GND (power), Y1 GND (power), Y33 GND (power)
part M pins: AC2 NC, AK4 NC, AL3 NC, C31 NC
part A text: BANK 0
part B text: BANK 1
part C text: BANK 2
part D text: BANK 3
part E text: BANK 4
part F text: BANK 5
part G text: BANK 6
part H text: BANK 7

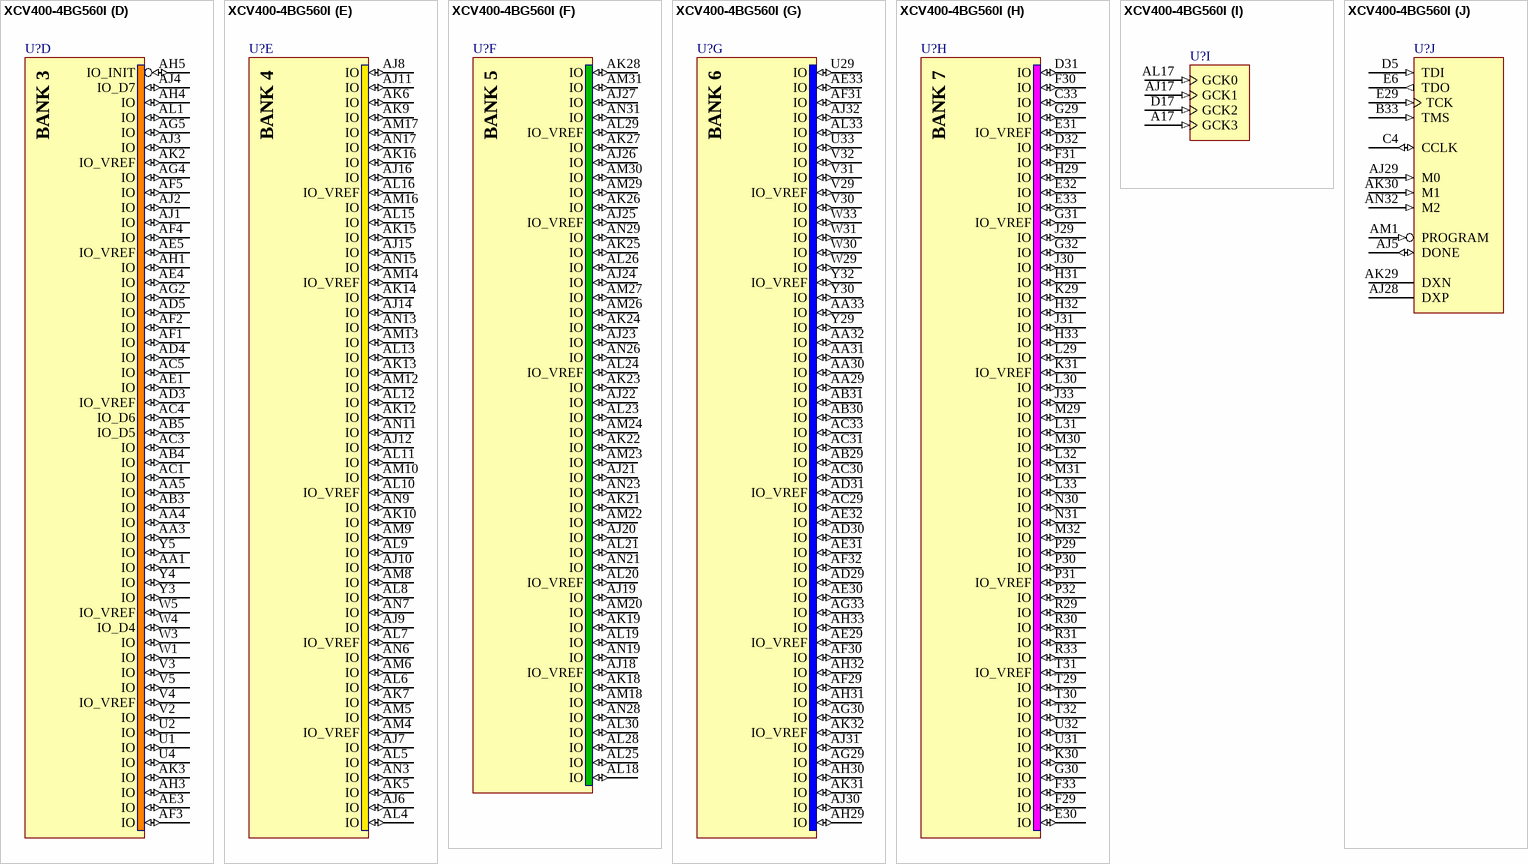
[diagram p96: symbol XCV400-4BG560I]

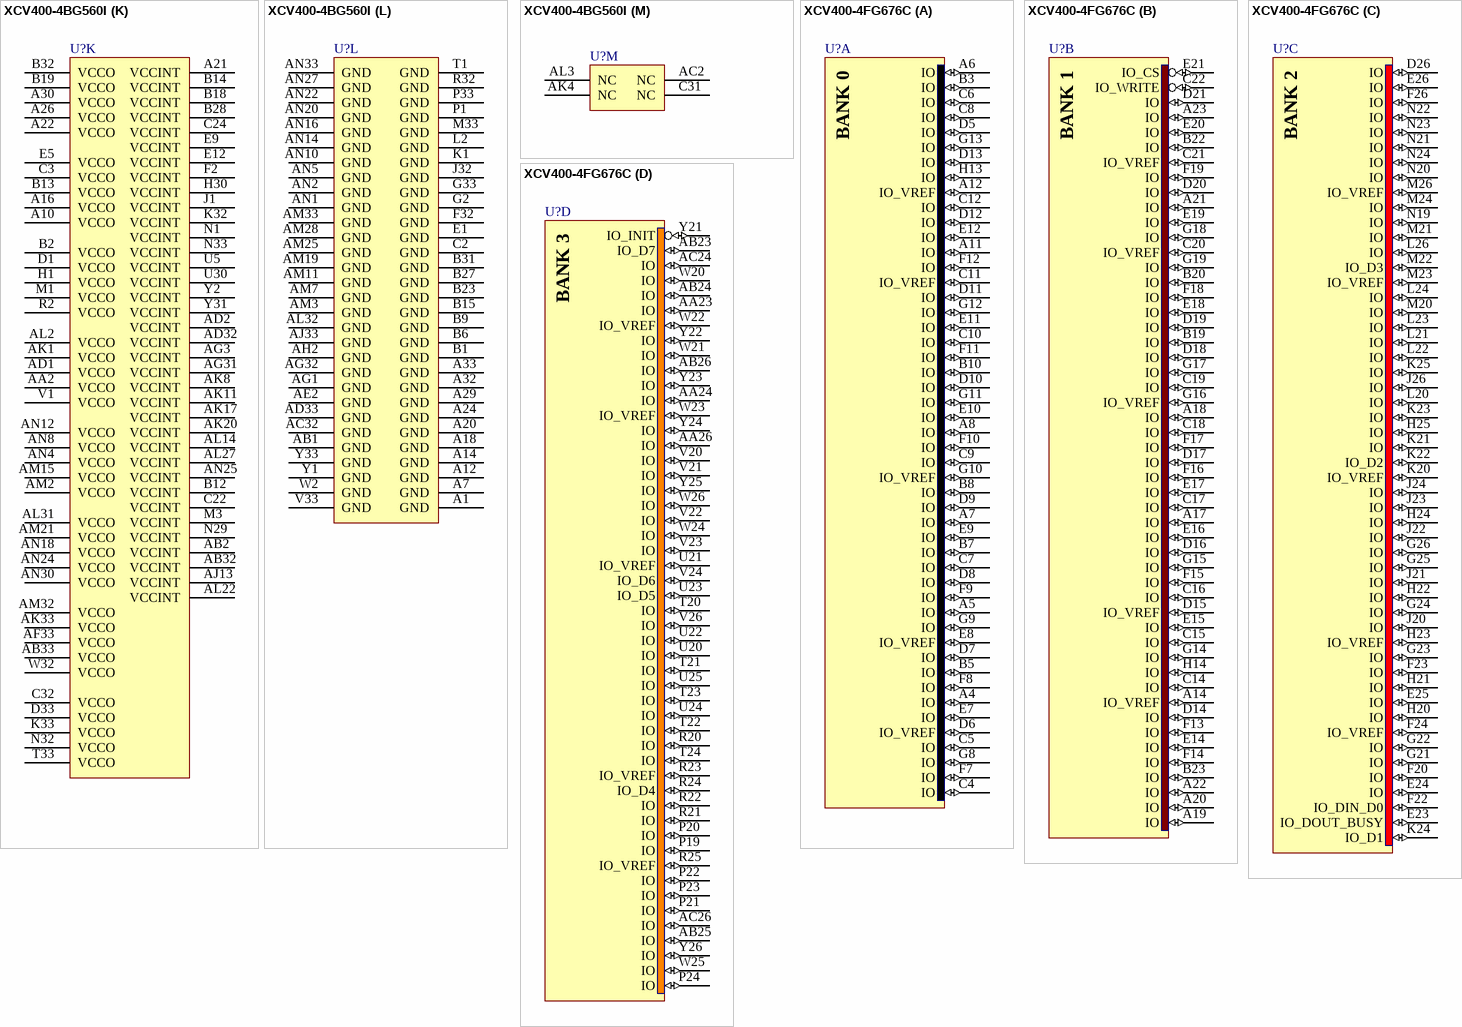
[diagram p97: symbols XCV400-4BG560I to XCV400-4FG676C]

## XCV400-4BG560I
designator U?
Virtex 2.5V FPGA, 404 User I/Os, 560-Ball BGA, Speed Grade 4, Industrial Grade; Note: Solder pads are defined by the copper i.e. non-soldermask defined (NSMD); DatasheetVersion: Dec-2002; PackageVersion: ver1.1, Apr-2001; PackageReference: BG560; PackageDescription: 560-Ball Metal Ball Grid Array (BG560); Code_JEDEC: MO-192-BAV-1 (Depopulated); ComponentLink1Description: Manufacturer URL; ComponentLink1URL: http://www.xilinx.com/; ComponentLink2Description: Virtex Datasheet; ComponentLink2URL: http://www.xilinx.com/support/documentation/data_sheets/ds003.pdf; ComponentLink3Description: BG560 Package Drawing; ComponentLink3URL: http://www.xilinx.com/support/documentation/package_specs/bg560.pdf; ComponentLink4Description: Virtex Documents; ComponentLink4URL: http://www.xilinx.com/support/documentation/virtex.htm
footprint BG560 (BGA, 560-Leads, Body 42.5x42.5mm, Pitch 1.27mm)
part A pins: A19 IO_VREF (io), A23 IO (io), A25 IO (io), A27 IO (io), A28 IO (io), A31 IO (io), B20 IO (io), B21 IO (io), B22 IO (io), B24 IO (io), B25 IO (io), B26 IO (io), B29 IO (io), B30 IO (io), C18 IO (io), C19 IO (io), C20 IO (io), C21 IO (io), C23 IO (io), C25 IO (io), C26 IO (io), C27 IO (io), C28 IO (io), C29 IO (io), C30 IO (io), D18 IO (io), D19 IO (io), D20 IO_VREF (io), D21 IO (io), D22 IO (io), D23 IO (io), D24 IO (io), D25 IO (io), D26 IO_VREF (io), D27 IO (io), D28 IO (io), D29 IO (io), D30 IO (io), E18 IO (io), E19 IO (io), E20 IO (io), E21 IO (io), E22 IO (io), E23 IO_VREF (io), E24 IO (io), E25 IO (io), E26 IO (io), E27 IO_VREF (io), E28 IO (io)
part B pins: A2 IO_CS (io), A3 IO (io), A4 IO (io), A5 IO (io), A6 IO_VREF (io), A8 IO (io), A9 IO (io), A11 IO (io), A13 IO (io), A15 IO (io), B4 IO (io), B5 IO (io), B7 IO (io), B8 IO (io), B10 IO (io), B11 IO (io), B16 IO (io), B17 IO (io), C5 IO (io), C6 IO (io), C7 IO (io), C8 IO (io), C9 IO (io), C10 IO (io), C11 IO (io), C12 IO (io), C13 IO (io), C14 IO (io), C15 IO (io), C16 IO (io), C17 IO (io), D6 IO_WRITE (io), D7 IO_VREF (io), D8 IO (io), D9 IO (io), D10 IO (io), D11 IO_VREF (io), D12 IO (io), D13 IO (io), D14 IO (io), D15 IO (io), D16 IO_VREF (io), E7 IO (io), E8 IO (io), E10 IO (io), E11 IO (io), E13 IO (io), E14 IO (io), E15 IO_VREF (io), E16 IO (io), E17 IO (io)
part C pins: B3 IO (io), C1 IO (io), D2 IO (io), D3 IO (io), D4 IO_DOUT_BUSY (io), E2 IO (io), E3 IO (io), E4 IO_DIN_D0 (io), F1 IO (io), F3 IO (io), F4 IO (io), F5 IO (io), G1 IO (io), G3 IO (io), G4 IO (io), G5 IO_VREF (io), H2 IO (io), H3 IO (io), H4 IO_VREF (io), H5 IO (io), J2 IO (io), J3 IO (io), J4 IO (io), J5 IO (io), K2 IO (io), K3 IO_D1 (io), K4 IO (io), K5 IO (io), L1 IO (io), L3 IO (io), L4 IO_D2 (io), L5 IO_VREF (io), M2 IO (io), M4 IO (io), M5 IO (io), N2 IO (io), N3 IO (io), N4 IO (io), N5 IO (io), P2 IO (io), P3 IO_D3 (io), P4 IO_VREF (io), P5 IO (io), R1 IO_VREF (io), R3 IO (io), R4 IO (io), R5 IO (io), T2 IO (io), T3 IO (io), T4 IO (io), T5 IO (io), U3 IO (io)
part D pins: AA1 IO (io), AA3 IO (io), AA4 IO (io), AA5 IO (io), AB3 IO (io), AB4 IO (io), AB5 IO_D5 (io), AC1 IO (io), AC3 IO (io), AC4 IO_D6 (io), AC5 IO (io), AD3 IO_VREF (io), AD4 IO (io), AD5 IO (io), AE1 IO (io), AE3 IO (io), AE4 IO (io), AE5 IO_VREF (io), AF1 IO (io), AF2 IO (io), AF3 IO (io), AF4 IO (io), AF5 IO (io), AG2 IO (io), AG4 IO (io), AG5 IO (io), AH1 IO (io), AH3 IO (io), AH4 IO (io), AH5 IO_INIT (io), AJ1 IO (io), AJ2 IO (io), AJ3 IO (io), AJ4 IO_D7 (io), AK2 IO_VREF (io), AK3 IO (io), AL1 IO (io), U1 IO (io), U2 IO (io), U4 IO (io), V2 IO (io), V3 IO (io), V4 IO_VREF (io), V5 IO (io), W1 IO (io), W3 IO (io), W4 IO_D4 (io), W5 IO_VREF (io), Y3 IO (io), Y4 IO (io), Y5 IO (io)
part E pins: AJ6 IO (io), AJ7 IO (io), AJ8 IO (io), AJ9 IO (io), AJ10 IO (io), AJ11 IO (io), AJ12 IO (io), AJ14 IO (io), AJ15 IO (io), AJ16 IO (io), AK5 IO (io), AK6 IO (io), AK7 IO (io), AK9 IO (io), AK10 IO (io), AK12 IO (io), AK13 IO (io), AK14 IO (io), AK15 IO (io), AK16 IO (io), AL4 IO (io), AL5 IO (io), AL6 IO (io), AL7 IO_VREF (io), AL8 IO (io), AL9 IO (io), AL10 IO_VREF (io), AL11 IO (io), AL12 IO (io), AL13 IO (io), AL15 IO (io), AL16 IO_VREF (io), AM4 IO_VREF (io), AM5 IO (io), AM6 IO (io), AM8 IO (io), AM9 IO (io), AM10 IO (io), AM12 IO (io), AM13 IO (io), AM14 IO_VREF (io), AM16 IO (io), AM17 IO (io), AN3 IO (io), AN6 IO (io), AN7 IO (io), AN9 IO (io), AN11 IO (io), AN13 IO (io), AN15 IO (io), AN17 IO (io)
part F pins: AJ18 IO_VREF (io), AJ19 IO (io), AJ20 IO (io), AJ21 IO (io), AJ22 IO (io), AJ23 IO (io), AJ24 IO (io), AJ25 IO_VREF (io), AJ26 IO (io), AJ27 IO (io), AK18 IO (io), AK19 IO (io), AK21 IO (io), AK22 IO (io), AK23 IO (io), AK24 IO (io), AK25 IO (io), AK26 IO (io), AK27 IO (io), AK28 IO (io), AL18 IO (io), AL19 IO (io), AL20 IO_VREF (io), AL21 IO (io), AL23 IO (io), AL24 IO_VREF (io), AL25 IO (io), AL26 IO (io), AL28 IO (io), AL29 IO_VREF (io), AL30 IO (io), AM18 IO (io), AM20 IO (io), AM22 IO (io), AM23 IO (io), AM24 IO (io), AM26 IO (io), AM27 IO (io), AM29 IO (io), AM30 IO (io), AM31 IO (io), AN19 IO (io), AN21 IO (io), AN23 IO (io), AN26 IO (io), AN28 IO (io), AN29 IO (io), AN31 IO (io)
part G pins: AA29 IO (io), AA30 IO (io), AA31 IO (io), AA32 IO (io), AA33 IO (io), AB29 IO (io), AB30 IO (io), AB31 IO (io), AC29 IO (io), AC30 IO (io), AC31 IO (io), AC33 IO (io), AD29 IO (io), AD30 IO (io), AD31 IO_VREF (io), AE29 IO_VREF (io), AE30 IO (io), AE31 IO (io), AE32 IO (io), AE33 IO (io), AF29 IO (io), AF30 IO (io), AF31 IO (io), AF32 IO (io), AG29 IO (io), AG30 IO (io), AG33 IO (io), AH29 IO (io), AH30 IO (io), AH31 IO (io), AH32 IO (io), AH33 IO (io), AJ30 IO (io), AJ31 IO (io), AJ32 IO (io), AK31 IO (io), AK32 IO_VREF (io), AL33 IO (io), U29 IO (io), U33 IO (io), V29 IO_VREF (io), V30 IO (io), V31 IO (io), V32 IO (io), W29 IO (io), W30 IO (io), W31 IO (io), W33 IO (io), Y29 IO (io), Y30 IO (io), Y32 IO_VREF (io)
part H pins: C33 IO (io), D31 IO (io), D32 IO (io), E30 IO (io), E31 IO_VREF (io), E32 IO (io), E33 IO (io), F29 IO (io), F30 IO (io), F31 IO (io), F33 IO (io), G29 IO (io), G30 IO (io), G31 IO_VREF (io), G32 IO (io), H29 IO (io), H31 IO (io), H32 IO (io), H33 IO (io), J29 IO (io), J30 IO (io), J31 IO (io), J33 IO (io), K29 IO (io), K30 IO (io), K31 IO_VREF (io), L29 IO (io), L30 IO (io), L31 IO (io), L32 IO (io), L33 IO (io), M29 IO (io), M30 IO (io), M31 IO (io), M32 IO (io), N30 IO (io), N31 IO (io), P29 IO (io), P30 IO (io), P31 IO_VREF (io), P32 IO (io), R29 IO (io), R30 IO (io), R31 IO (io), R33 IO (io), T29 IO (io), T30 IO (io), T31 IO_VREF (io), T32 IO (io), U31 IO (io), U32 IO (io)
part I pins: A17 GCK3 (in), AJ17 GCK1 (in), AL17 GCK0 (in), D17 GCK2 (in)
part J pins: AJ5 DONE (io), AJ28 DXP, AJ29 M0 (in), AK29 DXN, AK30 M1 (in), AM1 PROGRAM (in), AN32 M2 (in), B33 TMS (in), C4 CCLK (io), D5 TDI (in), E6 TDO (out), E29 TCK (in)
part K pins: A10 VCCO (power), A16 VCCO (power), A21 VCCINT (power), A22 VCCO (power), A26 VCCO (power), A30 VCCO (power), AA2 VCCO (power), AB2 VCCINT (power), AB32 VCCINT (power), AB33 VCCO (power), AD1 VCCO (power), AD2 VCCINT (power), AD32 VCCINT (power), AF33 VCCO (power), AG3 VCCINT (power), AG31 VCCINT (power), AJ13 VCCINT (power), AK1 VCCO (power), AK8 VCCINT (power), AK11 VCCINT (power), AK17 VCCINT (power), AK20 VCCINT (power), AK33 VCCO (power), AL2 VCCO (power), AL14 VCCINT (power), AL22 VCCINT (power), AL27 VCCINT (power), AL31 VCCO (power), AM2 VCCO (power), AM15 VCCO (power), AM21 VCCO (power), AM32 VCCO (power), AN4 VCCO (power), AN8 VCCO (power), AN12 VCCO (power), AN18 VCCO (power), AN24 VCCO (power), AN25 VCCINT (power), AN30 VCCO (power), B2 VCCO (power), B12 VCCINT (power), B13 VCCO (power), B14 VCCINT (power), B18 VCCINT (power), B19 VCCO (power), B28 VCCINT (power), B32 VCCO (power), C3 VCCO (power), C22 VCCINT (power), C24 VCCINT (power), C32 VCCO (power), D1 VCCO (power), D33 VCCO (power), E5 VCCO (power), E9 VCCINT (power), E12 VCCINT (power), F2 VCCINT (power), H1 VCCO (power), H30 VCCINT (power), J1 VCCINT (power), K32 VCCINT (power), K33 VCCO (power), M1 VCCO (power), M3 VCCINT (power), N1 VCCINT (power), N29 VCCINT (power), N32 VCCO (power), N33 VCCINT (power), R2 VCCO (power), T33 VCCO (power), U5 VCCINT (power), U30 VCCINT (power), V1 VCCO (power), W32 VCCO (power), Y2 VCCINT (power), Y31 VCCINT (power)
part L pins: A1 GND (power), A7 GND (power), A12 GND (power), A14 GND (power), A18 GND (power), A20 GND (power), A24 GND (power), A29 GND (power), A32 GND (power), A33 GND (power), AB1 GND (power), AC32 GND (power), AD33 GND (power), AE2 GND (power), AG1 GND (power), AG32 GND (power), AH2 GND (power), AJ33 GND (power), AL32 GND (power), AM3 GND (power), AM7 GND (power), AM11 GND (power), AM19 GND (power), AM25 GND (power), AM28 GND (power), AM33 GND (power), AN1 GND (power), AN2 GND (power), AN5 GND (power), AN10 GND (power), AN14 GND (power), AN16 GND (power), AN20 GND (power), AN22 GND (power), AN27 GND (power), AN33 GND (power), B1 GND (power), B6 GND (power), B9 GND (power), B15 GND (power), B23 GND (power), B27 GND (power), B31 GND (power), C2 GND (power), E1 GND (power), F32 GND (power), G2 GND (power), G33 GND (power), J32 GND (power), K1 GND (power), L2 GND (power), M33 GND (power), P1 GND (power), P33 GND (power), R32 GND (power), T1 GND (power), V33 GND (power), W2 GND (power), Y1 GND (power), Y33 GND (power)
part M pins: AC2 NC, AK4 NC, AL3 NC, C31 NC
part A text: BANK 0
part B text: BANK 1
part C text: BANK 2
part D text: BANK 3
part E text: BANK 4
part F text: BANK 5
part G text: BANK 6
part H text: BANK 7

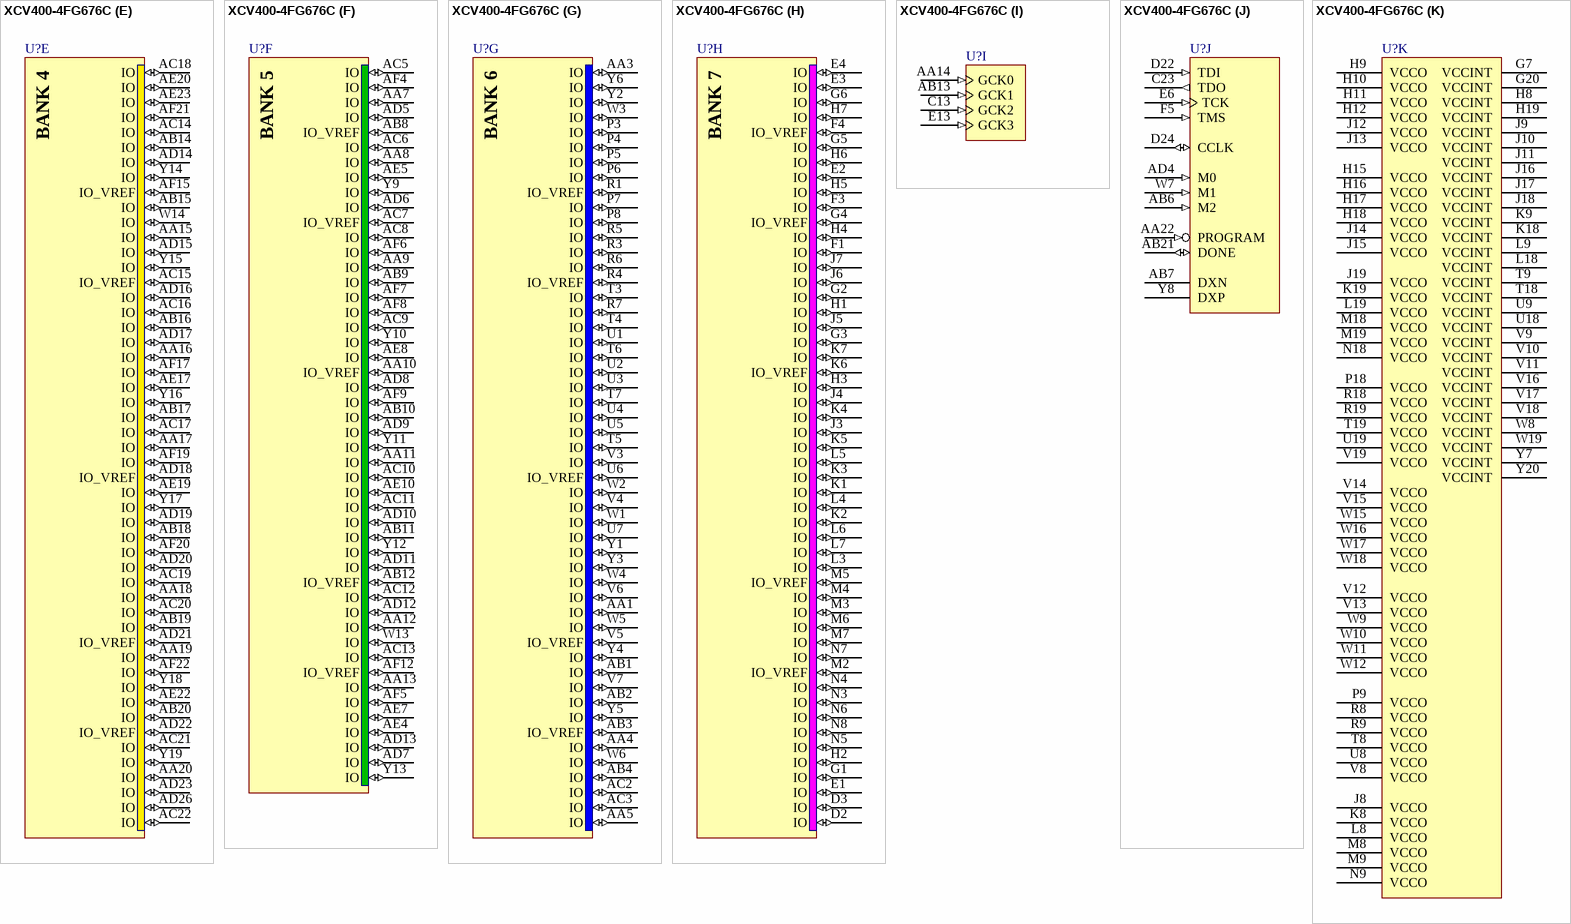
[diagram p98: symbol XCV400-4FG676C]

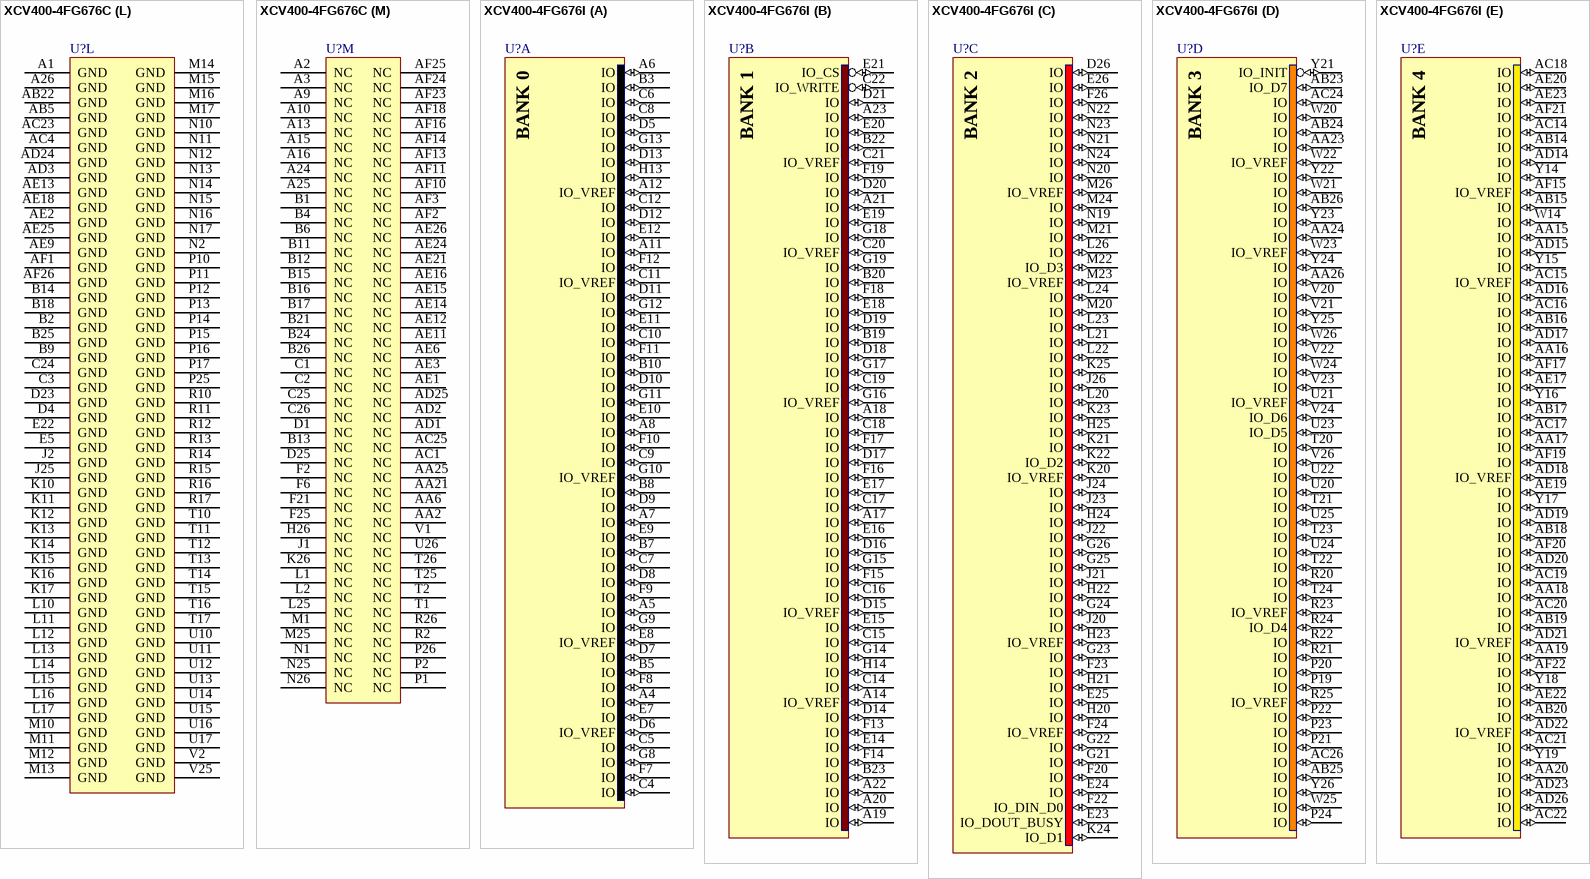
[diagram p99: symbols XCV400-4FG676C to XCV400-4FG676I]

## XCV400-4FG676C
designator U?
Virtex 2.5V FPGA, 404 User I/Os, 676-Ball FBGA, Speed Grade 4, Commercial Grade; Note: Solder pads are defined by the copper i.e. non-soldermask defined (NSMD); DatasheetVersion: Dec-2002; PackageVersion: ver1.2.1, Apr-2005; PackageReference: FG676; PackageDescription: 676-Ball Fine Pitch Ball Grid Array (FG676); Code_JEDEC: MS-034-AAL-1; Code_IPC: BGA100P26X26-676; ComponentLink1Description: Manufacturer URL; ComponentLink1URL: http://www.xilinx.com/; ComponentLink2Description: Virtex Datasheet; ComponentLink2URL: http://www.xilinx.com/support/documentation/data_sheets/ds003.pdf; ComponentLink3Description: FG676 Package Drawing; ComponentLink3URL: http://www.xilinx.com/support/documentation/package_specs/fg676.pdf; ComponentLink4Description: Virtex Documents; ComponentLink4URL: http://www.xilinx.com/support/documentation/virtex.htm
footprint FG676 (BGA, 676-Leads, Body 27x27mm, Pitch 1mm)
part A pins: A4 IO (io), A5 IO (io), A6 IO (io), A7 IO (io), A8 IO (io), A11 IO (io), A12 IO_VREF (io), B3 IO (io), B5 IO (io), B7 IO (io), B8 IO (io), B10 IO (io), C4 IO (io), C5 IO (io), C6 IO (io), C7 IO (io), C8 IO (io), C9 IO (io), C10 IO (io), C11 IO_VREF (io), C12 IO (io), D5 IO (io), D6 IO_VREF (io), D7 IO (io), D8 IO (io), D9 IO (io), D10 IO (io), D11 IO (io), D12 IO (io), D13 IO (io), E7 IO (io), E8 IO_VREF (io), E9 IO (io), E10 IO (io), E11 IO (io), E12 IO (io), F7 IO (io), F8 IO (io), F9 IO (io), F10 IO (io), F11 IO (io), F12 IO (io), G8 IO (io), G9 IO (io), G10 IO_VREF (io), G11 IO (io), G12 IO (io), G13 IO (io), H13 IO (io)
part B pins: A14 IO_VREF (io), A17 IO (io), A18 IO (io), A19 IO (io), A20 IO (io), A21 IO (io), A22 IO (io), A23 IO (io), B19 IO (io), B20 IO (io), B22 IO (io), B23 IO (io), C14 IO (io), C15 IO (io), C16 IO (io), C17 IO (io), C18 IO (io), C19 IO (io), C20 IO_VREF (io), C21 IO_VREF (io), C22 IO_WRITE (io), D14 IO (io), D15 IO_VREF (io), D16 IO (io), D17 IO (io), D18 IO (io), D19 IO (io), D20 IO (io), D21 IO (io), E14 IO (io), E15 IO (io), E16 IO (io), E17 IO (io), E18 IO (io), E19 IO (io), E20 IO (io), E21 IO_CS (io), F13 IO (io), F14 IO (io), F15 IO (io), F16 IO (io), F17 IO (io), F18 IO (io), F19 IO (io), G14 IO (io), G15 IO (io), G16 IO_VREF (io), G17 IO (io), G18 IO (io), G19 IO (io), H14 IO (io)
part C pins: D26 IO (io), E23 IO_DOUT_BUSY (io), E24 IO (io), E25 IO (io), E26 IO (io), F20 IO (io), F22 IO_DIN_D0 (io), F23 IO (io), F24 IO_VREF (io), F26 IO (io), G21 IO (io), G22 IO (io), G23 IO (io), G24 IO (io), G25 IO (io), G26 IO (io), H20 IO (io), H21 IO (io), H22 IO (io), H23 IO_VREF (io), H24 IO (io), H25 IO (io), J20 IO (io), J21 IO (io), J22 IO (io), J23 IO (io), J24 IO (io), J26 IO (io), K20 IO_VREF (io), K21 IO (io), K22 IO_D2 (io), K23 IO (io), K24 IO_D1 (io), K25 IO (io), L20 IO (io), L21 IO (io), L22 IO (io), L23 IO (io), L24 IO (io), L26 IO (io), M20 IO (io), M21 IO (io), M22 IO_D3 (io), M23 IO_VREF (io), M24 IO (io), M26 IO_VREF (io), N19 IO (io), N20 IO (io), N21 IO (io), N22 IO (io), N23 IO (io), N24 IO (io)
part D pins: AA23 IO (io), AA24 IO (io), AA26 IO (io), AB23 IO_D7 (io), AB24 IO (io), AB25 IO (io), AB26 IO (io), AC24 IO (io), AC26 IO (io), P19 IO (io), P20 IO (io), P21 IO (io), P22 IO (io), P23 IO (io), P24 IO (io), R20 IO (io), R21 IO (io), R22 IO (io), R23 IO_VREF (io), R24 IO_D4 (io), R25 IO_VREF (io), T20 IO (io), T21 IO (io), T22 IO (io), T23 IO (io), T24 IO (io), U20 IO (io), U21 IO_VREF (io), U22 IO (io), U23 IO_D5 (io), U24 IO (io), U25 IO (io), V20 IO (io), V21 IO (io), V22 IO (io), V23 IO (io), V24 IO_D6 (io), V26 IO (io), W20 IO (io), W21 IO (io), W22 IO_VREF (io), W23 IO_VREF (io), W24 IO (io), W25 IO (io), W26 IO (io), Y21 IO_INIT (io), Y22 IO (io), Y23 IO (io), Y24 IO (io), Y25 IO (io), Y26 IO (io)
part E pins: AA15 IO (io), AA16 IO (io), AA17 IO (io), AA18 IO (io), AA19 IO (io), AA20 IO (io), AB14 IO (io), AB15 IO (io), AB16 IO (io), AB17 IO (io), AB18 IO (io), AB19 IO (io), AB20 IO (io), AC14 IO (io), AC15 IO_VREF (io), AC16 IO (io), AC17 IO (io), AC18 IO (io), AC19 IO (io), AC20 IO (io), AC21 IO (io), AC22 IO (io), AD14 IO (io), AD15 IO (io), AD16 IO (io), AD17 IO (io), AD18 IO_VREF (io), AD19 IO (io), AD20 IO (io), AD21 IO_VREF (io), AD22 IO_VREF (io), AD23 IO (io), AD26 IO (io), AE17 IO (io), AE19 IO (io), AE20 IO (io), AE22 IO (io), AE23 IO (io), AF15 IO_VREF (io), AF17 IO (io), AF19 IO (io), AF20 IO (io), AF21 IO (io), AF22 IO (io), W14 IO (io), Y14 IO (io), Y15 IO (io), Y16 IO (io), Y17 IO (io), Y18 IO (io), Y19 IO (io)
part F pins: AA7 IO (io), AA8 IO (io), AA9 IO (io), AA10 IO_VREF (io), AA11 IO (io), AA12 IO (io), AA13 IO (io), AB8 IO_VREF (io), AB9 IO (io), AB10 IO (io), AB11 IO (io), AB12 IO_VREF (io), AC5 IO (io), AC6 IO (io), AC7 IO_VREF (io), AC8 IO (io), AC9 IO (io), AC10 IO (io), AC11 IO (io), AC12 IO (io), AC13 IO (io), AD5 IO (io), AD6 IO (io), AD7 IO (io), AD8 IO (io), AD9 IO (io), AD10 IO (io), AD11 IO (io), AD12 IO (io), AD13 IO (io), AE4 IO (io), AE5 IO (io), AE7 IO (io), AE8 IO (io), AE10 IO (io), AF4 IO (io), AF5 IO (io), AF6 IO (io), AF7 IO (io), AF8 IO (io), AF9 IO (io), AF12 IO_VREF (io), W13 IO (io), Y9 IO (io), Y10 IO (io), Y11 IO (io), Y12 IO (io), Y13 IO (io)
part G pins: AA1 IO (io), AA3 IO (io), AA4 IO (io), AA5 IO (io), AB1 IO (io), AB2 IO (io), AB3 IO_VREF (io), AB4 IO (io), AC2 IO (io), AC3 IO (io), P3 IO (io), P4 IO (io), P5 IO (io), P6 IO (io), P7 IO (io), P8 IO (io), R1 IO_VREF (io), R3 IO (io), R4 IO_VREF (io), R5 IO (io), R6 IO (io), R7 IO (io), T3 IO (io), T4 IO (io), T5 IO (io), T6 IO (io), T7 IO (io), U1 IO (io), U2 IO (io), U3 IO (io), U4 IO (io), U5 IO (io), U6 IO_VREF (io), U7 IO (io), V3 IO (io), V4 IO (io), V5 IO_VREF (io), V6 IO (io), V7 IO (io), W1 IO (io), W2 IO (io), W3 IO (io), W4 IO (io), W5 IO (io), W6 IO (io), Y1 IO (io), Y2 IO (io), Y3 IO (io), Y4 IO (io), Y5 IO (io), Y6 IO (io)
part H pins: D2 IO (io), D3 IO (io), E1 IO (io), E2 IO (io), E3 IO (io), E4 IO (io), F1 IO (io), F3 IO (io), F4 IO_VREF (io), G1 IO (io), G2 IO (io), G3 IO (io), G4 IO_VREF (io), G5 IO (io), G6 IO (io), H1 IO (io), H2 IO (io), H3 IO (io), H4 IO (io), H5 IO (io), H6 IO (io), H7 IO (io), J3 IO (io), J4 IO (io), J5 IO (io), J6 IO (io), J7 IO (io), K1 IO (io), K2 IO (io), K3 IO (io), K4 IO (io), K5 IO (io), K6 IO_VREF (io), K7 IO (io), L3 IO (io), L4 IO (io), L5 IO (io), L6 IO (io), L7 IO (io), M2 IO_VREF (io), M3 IO (io), M4 IO (io), M5 IO_VREF (io), M6 IO (io), M7 IO (io), N3 IO (io), N4 IO (io), N5 IO (io), N6 IO (io), N7 IO (io), N8 IO (io)
part I pins: AA14 GCK0 (in), AB13 GCK1 (in), C13 GCK2 (in), E13 GCK3 (in)
part J pins: AA22 PROGRAM (in), AB6 M2 (in), AB7 DXN, AB21 DONE (io), AD4 M0 (in), C23 TDO (out), D22 TDI (in), D24 CCLK (io), E6 TCK (in), F5 TMS (in), W7 M1 (in), Y8 DXP
part K pins: G7 VCCINT (power), G20 VCCINT (power), H8 VCCINT (power), H9 VCCO (power), H10 VCCO (power), H11 VCCO (power), H12 VCCO (power), H15 VCCO (power), H16 VCCO (power), H17 VCCO (power), H18 VCCO (power), H19 VCCINT (power), J8 VCCO (power), J9 VCCINT (power), J10 VCCINT (power), J11 VCCINT (power), J12 VCCO (power), J13 VCCO (power), J14 VCCO (power), J15 VCCO (power), J16 VCCINT (power), J17 VCCINT (power), J18 VCCINT (power), J19 VCCO (power), K8 VCCO (power), K9 VCCINT (power), K18 VCCINT (power), K19 VCCO (power), L8 VCCO (power), L9 VCCINT (power), L18 VCCINT (power), L19 VCCO (power), M8 VCCO (power), M9 VCCO (power), M18 VCCO (power), M19 VCCO (power), N9 VCCO (power), N18 VCCO (power), P9 VCCO (power), P18 VCCO (power), R8 VCCO (power), R9 VCCO (power), R18 VCCO (power), R19 VCCO (power), T8 VCCO (power), T9 VCCINT (power), T18 VCCINT (power), T19 VCCO (power), U8 VCCO (power), U9 VCCINT (power), U18 VCCINT (power), U19 VCCO (power), V8 VCCO (power), V9 VCCINT (power), V10 VCCINT (power), V11 VCCINT (power), V12 VCCO (power), V13 VCCO (power), V14 VCCO (power), V15 VCCO (power), V16 VCCINT (power), V17 VCCINT (power), V18 VCCINT (power), V19 VCCO (power), W8 VCCINT (power), W9 VCCO (power), W10 VCCO (power), W11 VCCO (power), W12 VCCO (power), W15 VCCO (power), W16 VCCO (power), W17 VCCO (power), W18 VCCO (power), W19 VCCINT (power), Y7 VCCINT (power), Y20 VCCINT (power)
part L pins: A1 GND (power), A26 GND (power), AB5 GND (power), AB22 GND (power), AC4 GND (power), AC23 GND (power), AD3 GND (power), AD24 GND (power), AE2 GND (power), AE9 GND (power), AE13 GND (power), AE18 GND (power), AE25 GND (power), AF1 GND (power), AF26 GND (power), B2 GND (power), B9 GND (power), B14 GND (power), B18 GND (power), B25 GND (power), C3 GND (power), C24 GND (power), D4 GND (power), D23 GND (power), E5 GND (power), E22 GND (power), J2 GND (power), J25 GND (power), K10 GND (power), K11 GND (power), K12 GND (power), K13 GND (power), K14 GND (power), K15 GND (power), K16 GND (power), K17 GND (power), L10 GND (power), L11 GND (power), L12 GND (power), L13 GND (power), L14 GND (power), L15 GND (power), L16 GND (power), L17 GND (power), M10 GND (power), M11 GND (power), M12 GND (power), M13 GND (power), M14 GND (power), M15 GND (power), M16 GND (power), M17 GND (power), N2 GND (power), N10 GND (power), N11 GND (power), N12 GND (power), N13 GND (power), N14 GND (power), N15 GND (power), N16 GND (power), N17 GND (power), P10 GND (power), P11 GND (power), P12 GND (power), P13 GND (power), P14 GND (power), P15 GND (power), P16 GND (power), P17 GND (power), P25 GND (power), R10 GND (power), R11 GND (power), R12 GND (power), R13 GND (power), R14 GND (power), R15 GND (power), R16 GND (power), R17 GND (power), T10 GND (power), T11 GND (power), T12 GND (power), T13 GND (power), T14 GND (power), T15 GND (power), T16 GND (power), T17 GND (power), U10 GND (power), U11 GND (power), U12 GND (power), U13 GND (power), U14 GND (power), U15 GND (power), U16 GND (power), U17 GND (power), V2 GND (power), V25 GND (power)
part M pins: A2 NC, A3 NC, A9 NC, A10 NC, A13 NC, A15 NC, A16 NC, A24 NC, A25 NC, AA2 NC, AA6 NC, AA21 NC, AA25 NC, AC1 NC, AC25 NC, AD1 NC, AD2 NC, AD25 NC, AE1 NC, AE3 NC, AE6 NC, AE11 NC, AE12 NC, AE14 NC, AE15 NC, AE16 NC, AE21 NC, AE24 NC, AE26 NC, AF2 NC, AF3 NC, AF10 NC, AF11 NC, AF13 NC, AF14 NC, AF16 NC, AF18 NC, AF23 NC, AF24 NC, AF25 NC, B1 NC, B4 NC, B6 NC, B11 NC, B12 NC, B13 NC, B15 NC, B16 NC, B17 NC, B21 NC, B24 NC, B26 NC, C1 NC, C2 NC, C25 NC, C26 NC, D1 NC, D25 NC, F2 NC, F6 NC, F21 NC, F25 NC, H26 NC, J1 NC, K26 NC, L1 NC, L2 NC, L25 NC, M1 NC, M25 NC, N1 NC, N25 NC, N26 NC, P1 NC, P2 NC, P26 NC, R2 NC, R26 NC, T1 NC, T2 NC, T25 NC, T26 NC, U26 NC, V1 NC
part A text: BANK 0
part B text: BANK 1
part C text: BANK 2
part D text: BANK 3
part E text: BANK 4
part F text: BANK 5
part G text: BANK 6
part H text: BANK 7

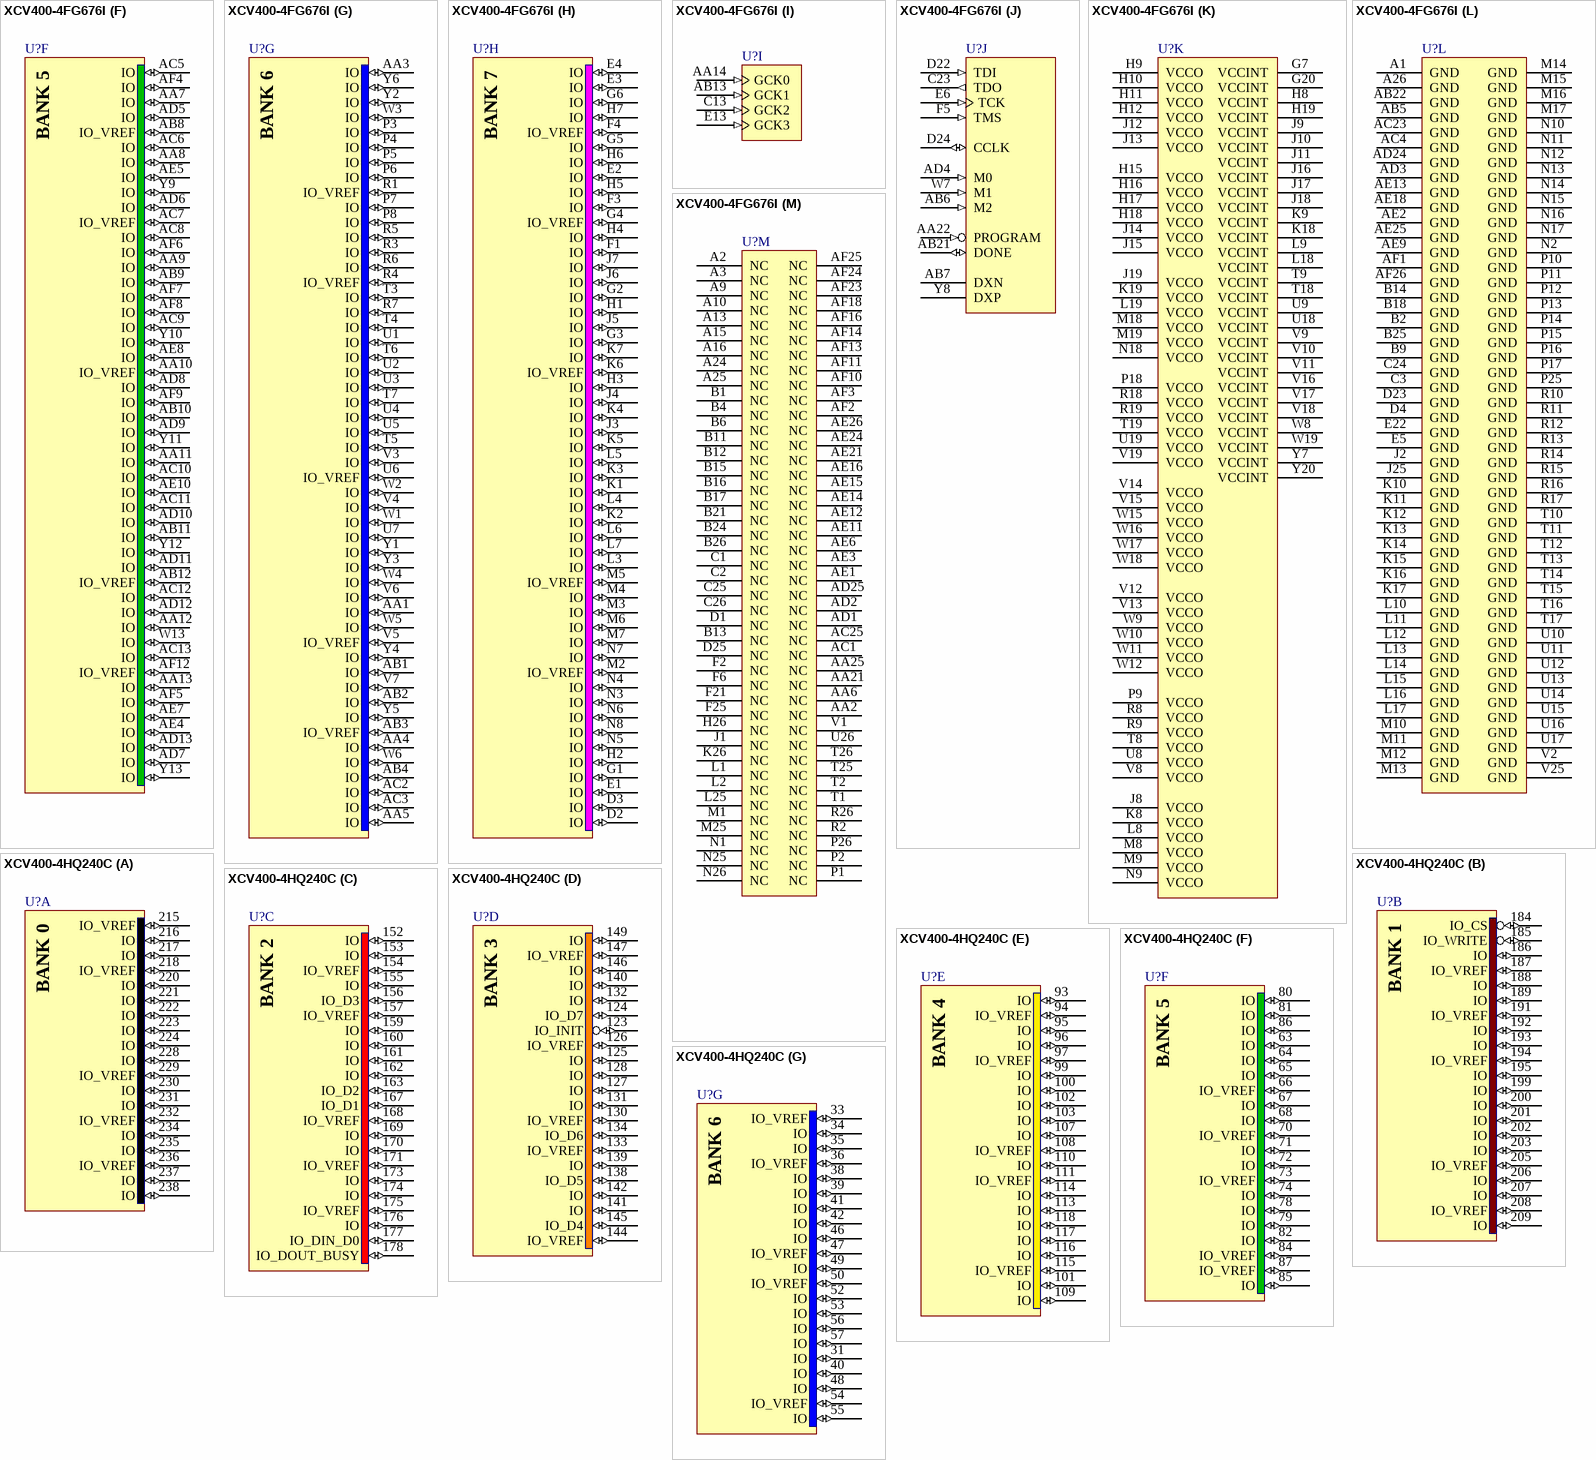
[diagram p100: symbols XCV400-4FG676I to XCV400-4HQ240C]